# Altium schematic symbol library PW Components.SchLib: 317 symbols (part 2 of 3)
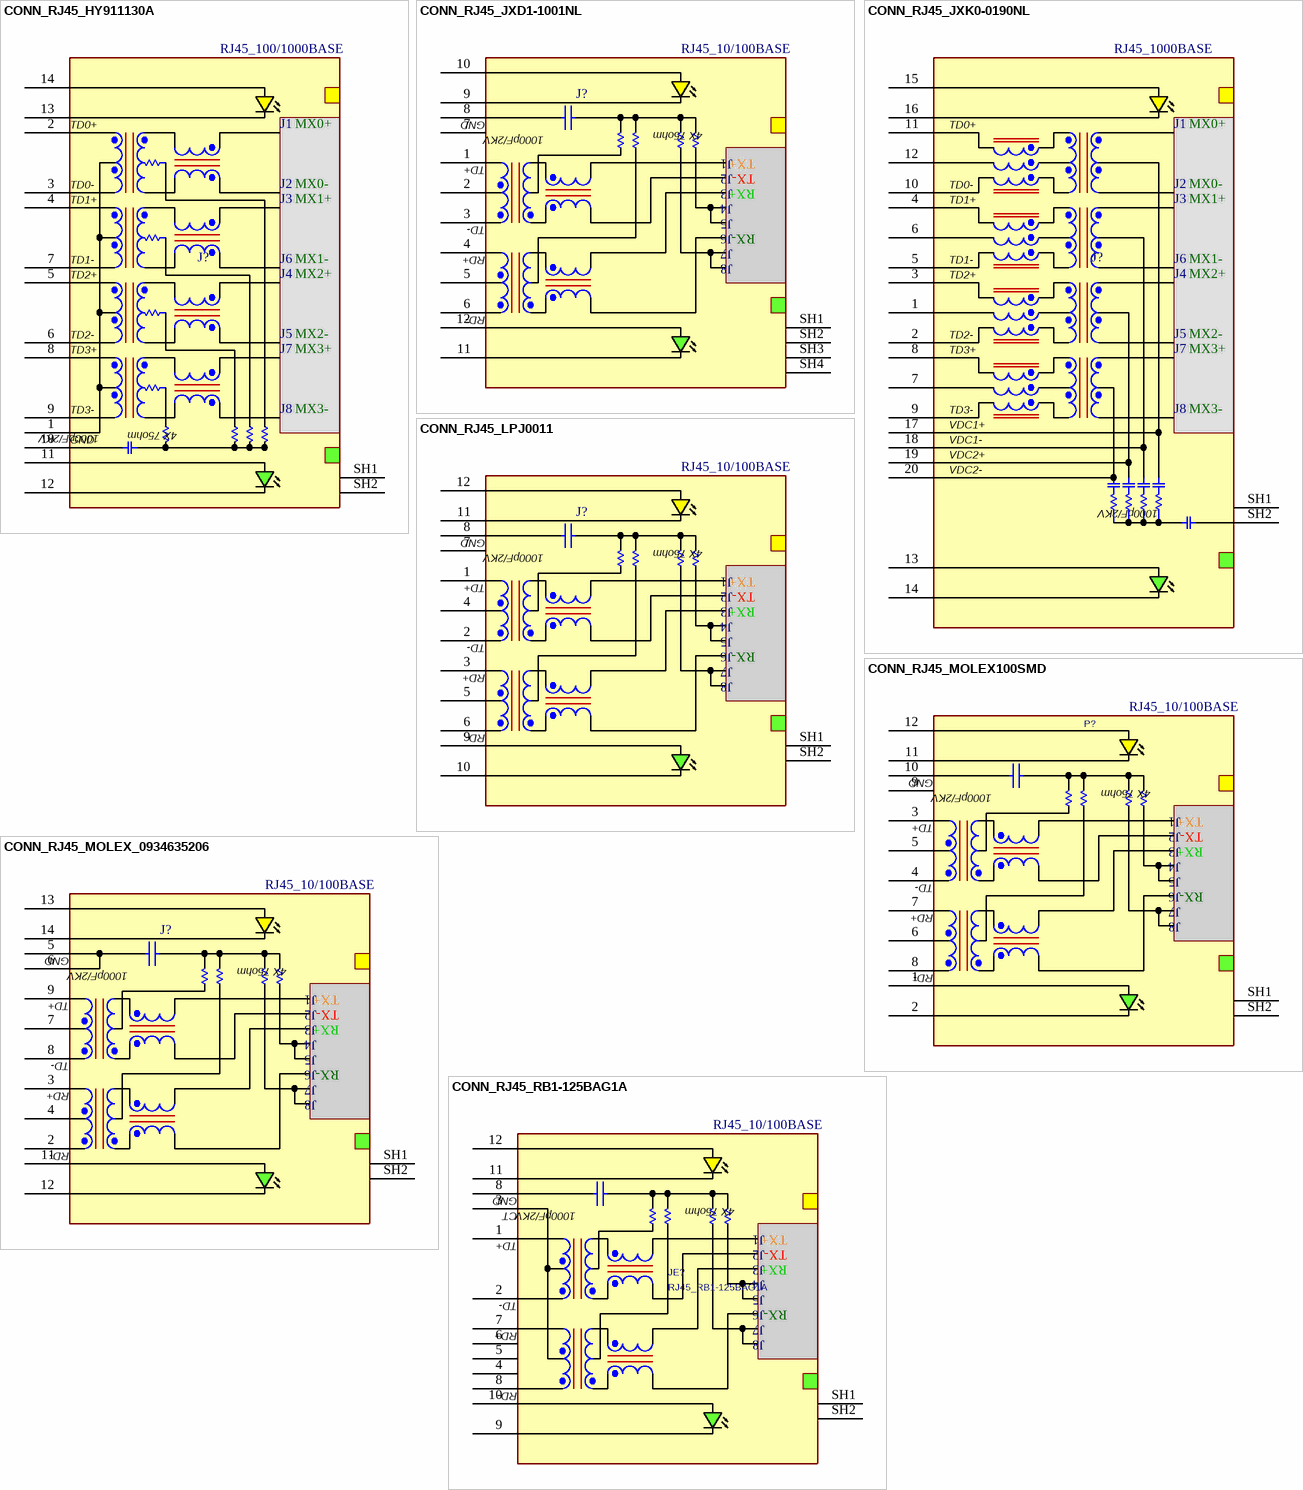
[diagram p15: symbols CONN_RJ45_HY911130A to CONN_RJ45_RB1-125BAG1A]

## CONN_RJ45_JXK0-0190NL
designator J?, comment RJ45_1000BASE
RJ45, 1000BASE, G/Y LED + POE; MANF: Pulse; MANF_P#: JXK0-0190NL; PARAM: 4PAIR POE 75W, -40~85oC; PARAM2: 1000BASE, G/Y LED; VALUE: RJ45_1000BASE
footprint RJ45_20M_JXK0_0190 (RJ45, 1000Base, JXK0-0190NL Pulse)
pins: 1 MDCT3, 2 MD3-, 3 MD3+, 4 MD2+, 5 MD2-, 6 MDCT2, 7 MDCT4, 8 MD4+, 9 MD4-, 10 MD1-, 11 MD1+, 12 MDCT1, 13 GLEDA, 14 GLEDK, 15 YLEDA, 16 YLEDK, 17 VC1+, 18 VC1-, 19 VC2+, 20 VC2-, SH1, SH2
text: TD0+; J1; MX0+; TD0-; J2; MX0-; TD1+; J3; MX1+; TD1-; J6; MX1-; TD2+; J4; MX2+; TD2-; J5; MX2-; TD3+; J7; MX3+; TD3-; J8; MX3-; VDC1+; VDC1-; VDC2+; VDC2-; 1000pF/2KV

## CONN_RJ45_LPJ0011
designator J?, comment RJ45_10/100BASE
RJ45, 10/100BASE, G/Y LED; MANF: LINK-PP; MANF_P#: LPJ0011BBNL; PARAM: 0~70oC; PARAM2: 10/100BASE, G/Y LED; VALUE: RJ45_10/100BASE
footprint RJ45_8M_HR911105A (RJ45, 10/100BASE, HR911105A WITH G/Y LED)
pins: 1 TD+, 2 TD-, 3 RD+, 4 TCT, 5 RCT, 6 RD-, 7 NC, 8 CHSGND, 9 GLED+, 10 GLED-, 11 YLED-, 12 YLED+, SH1, SH2
text: GND; 4X 75ohm; 1000pF/2KV; J1; TX+; J2; TX-; J3; RX+; J4; J5; J6; RX-; J7; J8

## CONN_RJ45_MOLEX100SMD
designator P?, comment RJ45_10/100BASE
RJ45, 10/100BASE, G/Y LED, SMT; DESC: MAGNET AND MODULAR JACK; MANF: MOLEX; MANF_P#: 48074-9001; PARAM2: 10/100BASE, G/Y LED; VALUE: RJ45_10/100BASE
footprint RJ45_8M_100M_SMD (RJ45, 10/100BASE, MOLEX SMD WITH G/Y LED)
pins: 1 GLED+, 2 GLED-, 3 TD+, 4 TD-, 5 TCT, 6 RCT, 7 RD+, 8 RD-, 9 NC, 10 CHSGND, 11 YLED-, 12 YLED+, SH1, SH2
text: GND; 4X 75ohm; 1000pF/2KV; J1; TX+; J2; TX-; J3; RX+; J4; J5; J6; RX-; J7; J8

## CONN_RJ45_MOLEX_0934635206
designator J?, comment RJ45_10/100BASE
RJ45, 10/100BASE, G/Y LED, UpTab; MANF: Molex; MANF_P#: 0934635206; PARAM: -40~85oC; PARAM2: 10/100BASE, G/Y LED; PRICE: 4.2$; VALUE: RJ45_10/100BASE
footprint RJ45_8M_0934635206 (RJ45, 10/100BASE, Up Tab, 0934635206 MOLEX)
pins: 2 RD-, 3 RD+, 4 RCT, 5 CHSGND, 6 GND, 7 TCT, 8 TD-, 9 TD+, 11 GLED+, 12 GLED-, 13 YLED+, 14 YLED-, SH1, SH2
text: 4X 75ohm; 1000pF/2KV; J1; TX+; J2; TX-; J3; RX+; J4; J5; J6; RX-; J7; J8

## CONN_RJ45_RB1-125BAG1A
designator JE?, comment RJ45_RB1-125BAG1A  value RJ45_10/100BASE
RJ45, 10/100BASE, G/Y LED; DIST#: DIGIKEY/1278-1011-ND; DESC: CONN MAGJACK 1PORT 100 BASE-T; MANF: WIZNET; PRICE: 1:$2.55; MANF_P#: RB1-125BAG1A; PARAM2: 10/100BASE, G/Y LED
footprint RJ45_8M_LS (HALO Ethernet FASTJACK with LED STAGGERED, RB1-125BAG1A)
pins: 1 TD+, 2 TD-, 3 CT, 4, 5, 6, 7 RD+, 8 RD-, 8 CHSGND, 9 GLED-, 10 GLED+, 11 YLED-, 12 YLED+, SH1, SH2
text: GND; 4X 75ohm; 1000pF/2KV; J1; TX+; J2; TX-; J3; RX+; J4; J5; J6; RX-; J7; J8

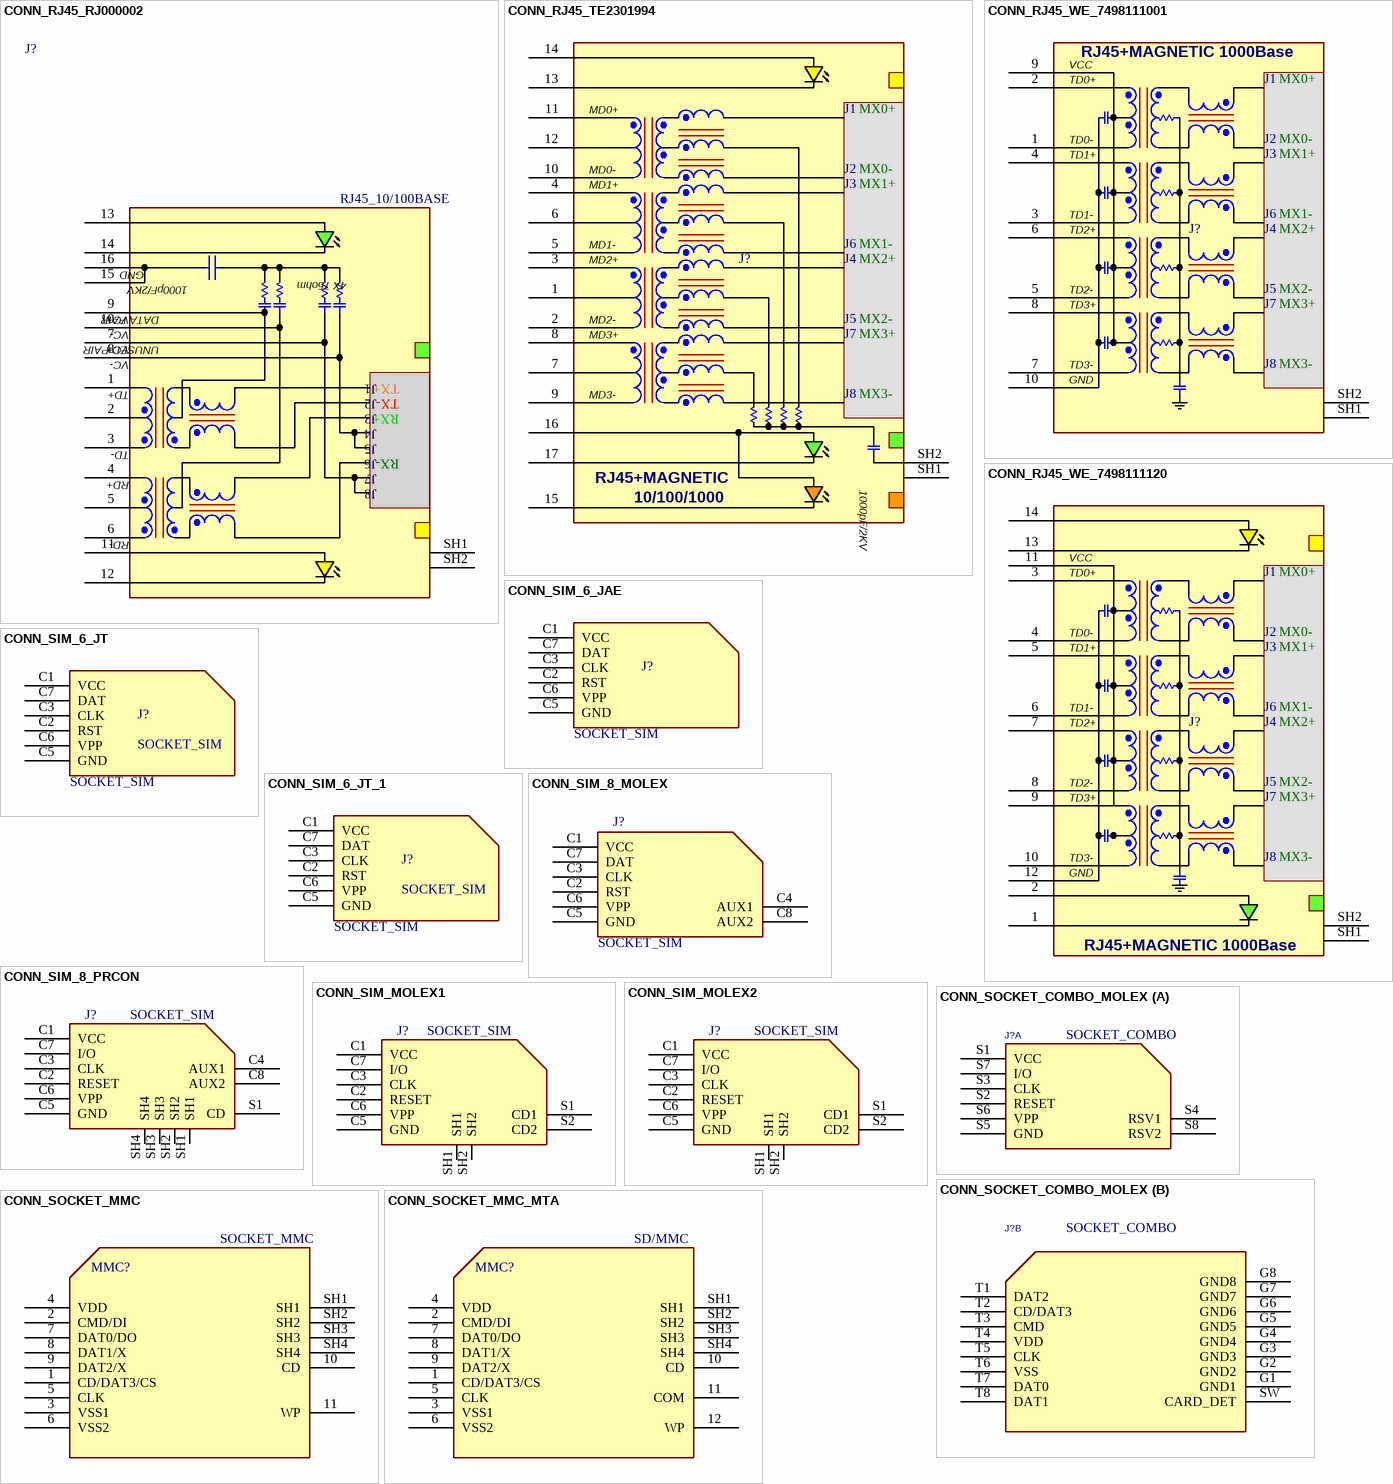
[diagram p6: symbols CONN_RJ45_RJ000002 to CONN_SOCKET_MMC_MTA]

## CONN_RJ45_RJ000002
designator J?, comment RJ45_10/100BASE
RJ45, 10/100BASE, G/Y LED; MANF: LINK-PP, YCL; MANF_P#: RJ000002; PARAM2: 10/100BASE, G/Y LED; VALUE: RJ45_10/100BASE
footprint RJ45_10M_RJ000002 (RJ45, 10/100BASE,)
pins: 1 TD+, 2 TCT, 3 TD-, 4 RD+, 5 RCT, 6 RD-, 7 VCU+, 8 VCU-, 9 VCD+, 10 VCD-, 11 YLED+, 12 YLED-, 13 GLED+, 14 GLED-, 15 P15, 16 CHSGND, SH1, SH2
text: GND; 4X 75ohm; 1000pF/2KV; VC+; DATA PAIR; VC-; UNUSED PAIR; J1; TX+; J2; TX-; J3; RX+; J4; J5; J6; RX-; J7; J8

## CONN_RJ45_TE2301994
designator J?, comment RJ45_10/100/1000  (value not drawn)
RJ45, 10/100/1000, with Magnetic, G/Y LED; MANF: TE; MANF_P#: 6-2301994-1; PARAM: -40~85oC; PARAM2: 10/100/1000, with Magnetic, G/Y LED; PRICE: 9$; VALUE: RJ45_10/100/1000
footprint RJ45_12M_TE2301994 (RJ45, 1000Base, Up Tab, TE 6-2301994-1)
pins: 1 MDCT2, 2 MD2-, 3 MD2+, 4 MD1+, 5 MD1-, 6 MDCT1, 7 MDCT3, 8 MD3+, 9 MD3-, 10 MD0-, 11 MD0+, 12 MDCT0, 13 YLED-, 14 YLED+, 15 OLED-, 16 GLED+, 17 GLED-, SH1, SH2
text: J1; MX0+; J2; MX0-; J3; MX1+; J6; MX1-; J4; MX2+; J5; MX2-; J7; MX3+; J8; MX3-; RJ45+MAGNETIC; 1000pF/2KV; 10/100/1000

## CONN_RJ45_WE_7498111001
designator J?, comment RJ45_1000Base  (value not drawn)
RJ45, 1000Base, with Magnetic; MANF: WE; MANF_P#: 7498111001; PARAM: -40~85oC; PARAM2: 1000Base, with Magnetic; PRICE: 12$; VALUE: RJ45_1000Base
footprint RJ45_10M_WE7498111001 (Footprint not found)
pins: 1 TD0-, 2 TD0+, 3 TD1-, 4 TD1+, 5 TD2-, 6 TD2+, 7 TD3-, 8 TD3+, 9 VCC, 10 CHSGND, SH1, SH2
text: RJ45+MAGNETIC 1000Base; J1; MX0+; J2; MX0-; J3; MX1+; J6; MX1-; J4; MX2+; J5; MX2-; J7; MX3+; J8; MX3-; GND

## CONN_RJ45_WE_7498111120
designator J?, comment RJ45_1000Base  (value not drawn)
RJ45, 1000Base, with Magnetic + LED G/Y; MANF: WE; MANF_P#: 7498111120R; PARAM: 0~70oC; PARAM2: 1000Base, with Magnetic + LED G/Y; PRICE: 13$; VALUE: RJ45_1000Base
footprint RJ45_10M_WE7498111120 (Footprint not found)
pins: 1 GLED-, 2 GLED+, 3 TD0+, 4 TD0-, 5 TD1+, 6 TD1-, 7 TD2+, 8 TD2-, 9 TD3+, 10 TD3-, 11 VCC, 12 CHSGND, 13 YLED-, 14 YLED+, SH1, SH2
text: J1; MX0+; J2; MX0-; J3; MX1+; J6; MX1-; J4; MX2+; J5; MX2-; J7; MX3+; J8; MX3-; GND; RJ45+MAGNETIC 1000Base

## CONN_SIM_6_JAE
designator J?, comment SOCKET_SIM
SOCKET, SIM MINI, Hinged Lid, exist on Iran; MANF_P#: SF7W006S1AE1000; MANF: JAE; PARAM: Hinged Lid; PRICE: 3$; VALUE: SOCKET_SIM
footprint SIM_MINI_6
pins: C1 VCC, C2 RST, C3 CLK, C5 GND, C6 VPP, C7 DAT

## CONN_SIM_6_JT
designator J?, comment SOCKET_SIM
SOCKET, SIM MINI, PUSH-PULL, exist on Iran; MANF: JTCONN; MANF_P#: -; PRICE: 750toman@roboeq; VALUE: SOCKET_SIM
footprint SIM_MINI_6JT (SIM MINI, JTCONN)
pins: C1 VCC, C2 RST, C3 CLK, C5 GND, C6 VPP, C7 DAT

## CONN_SIM_6_JT_1
designator J?, comment SOCKET_SIM
SOCKET, SIM MINI, PUSH-PULL, exist on Iran; MANF: JTCONN; MANF_P#: -; PRICE: 750toman@roboeq; VALUE: SOCKET_SIM
footprint SIM_MINI_6JT (SIM MINI, JTCONN)
pins: C1 VCC, C2 RST, C3 CLK, C5 GND, C6 VPP, C7 DAT

## CONN_SIM_8_MOLEX
designator J?, comment SOCKET_SIM
SOCKET, SIM MINI, with Ejector, exist on Iran; MANF: MOLEX; MANF_P#: 91228-3001; VALUE: SOCKET_SIM
footprint SIM_MINI_8_MOLEX (SIM 8P, MOLEX 91228-3001, 2.54mm Pitch ChipSIM Connector with Ejector, 6 Circuits, without Pegs, Yellow Button)
pins: C1 VCC, C2 RST, C3 CLK, C4 AUX1, C5 GND, C6 VPP, C7 DAT, C8 AUX2

## CONN_SIM_8_PRCON
designator J?, comment SOCKET_SIM
SOCKET, SIM MINI, PUSH-PUSH, exist on Iran; MANF: PROCONN, GCT; MANF_P#: SPPN08-A0-1080, SIM4056; PRICE: 2000t@JAVAN, 2500toman@eca; VALUE: SOCKET_SIM
footprint SIM_MINI_GCT (SIM MINI, GCT SIM4056 pitch: 1.27mm 26.3x19.3mm)
pins: C1 VCC, C2 RESET, C3 CLK, C4 AUX1, C5 GND, C6 VPP, C7 I/O, C8 AUX2, S1 CD, SH1, SH2, SH3, SH4

## CONN_SIM_MOLEX1
designator J?, comment SOCKET_SIM
SOCKET, SIM MINI, w/o Locator; MANF: Molex, ATTEND; MANF_P#: 47553-0001, 115A-ADA0-R02; PRICE: 1=2.94, 10=2.822, 25=2.5868, 50=2.4694, 100=2.3518, 250=2.05784 (USD); VALUE: SOCKET_SIM
footprint SIM_MINI_MOLEX1 (SIM MINI, MOLEX PUSH PUSH pitch: 1.27mm 26.3x19.3mm)
pins: C1 VCC, C2 RESET, C3 CLK, C5 GND, C6 VPP, C7 I/O, S1 CD1, S2 CD2, SH1, SH2

## CONN_SIM_MOLEX2
designator J?, comment SOCKET_SIM
SOCKET, SIM MINI, with Locator; MANF: Molex; MANF_P#: 47553-1001; PRICE: 1=2.94, 10=2.822, 25=2.5868, 50=2.4694, 100=2.3518, 250=2.05784 (USD); VALUE: SOCKET_SIM
footprint SIM_MINI_MOLEX2 (SIM MINI, with Locator, MOLEX 47553-1001)
pins: C1 VCC, C2 RESET, C3 CLK, C5 GND, C6 VPP, C7 I/O, S1 CD1, S2 CD2, SH1, SH2

## CONN_SOCKET_COMBO_MOLEX
designator J?, comment SOCKET_COMBO
SOCKET, MICROSIM+SD, MOLEX 104168-1620; MANF: MOLEX; MANF_P#: 104168-1620; VALUE: SOCKET_COMBO
footprint SIMCOMBO_MOLEX (MOLEX MICROSIM+SD SOCKET 104168-1620)
part A pins: S1 VCC, S2 RESET, S3 CLK, S4 RSV1, S5 GND, S6 VPP, S7 I/O, S8 RSV2
part B pins: G1 GND1, G2 GND2, G3 GND3, G4 GND4, G5 GND5, G6 GND6, G7 GND7, G8 GND8, SW CARD_DET, T1 DAT2, T2 CD/DAT3, T3 CMD, T4 VDD, T5 CLK, T6 VSS, T7 DAT0, T8 DAT1
part B text: micro SD

## CONN_SOCKET_MMC
designator MMC?, comment SOCKET_MMC
MMC/SD Card; VALUE: SOCKET_MMC
footprint MMC
pins: 1 CD/DAT3/CS, 2 CMD/DI, 3 VSS1, 4 VDD, 5 CLK, 6 VSS2, 7 DAT0/DO, 8 DAT1/X, 9 DAT2/X, 10 CD, 11 WP, SH1, SH2, SH3, SH4

## CONN_SOCKET_MMC_MTA
designator MMC?, comment SD/MMC
MMC/SD Card; MANF_P#: SDC-W25PB-09; MANF: Morethanall; VALUE: SD/MMC
footprint MMC_MTA (SD/MMC Morethanall SDC-W25PB-09)
pins: 1 CD/DAT3/CS, 2 CMD/DI, 3 VSS1, 4 VDD, 5 CLK, 6 VSS2, 7 DAT0/DO, 8 DAT1/X, 9 DAT2/X, 10 CD, 11 COM, 12 WP, SH1, SH2, SH3, SH4

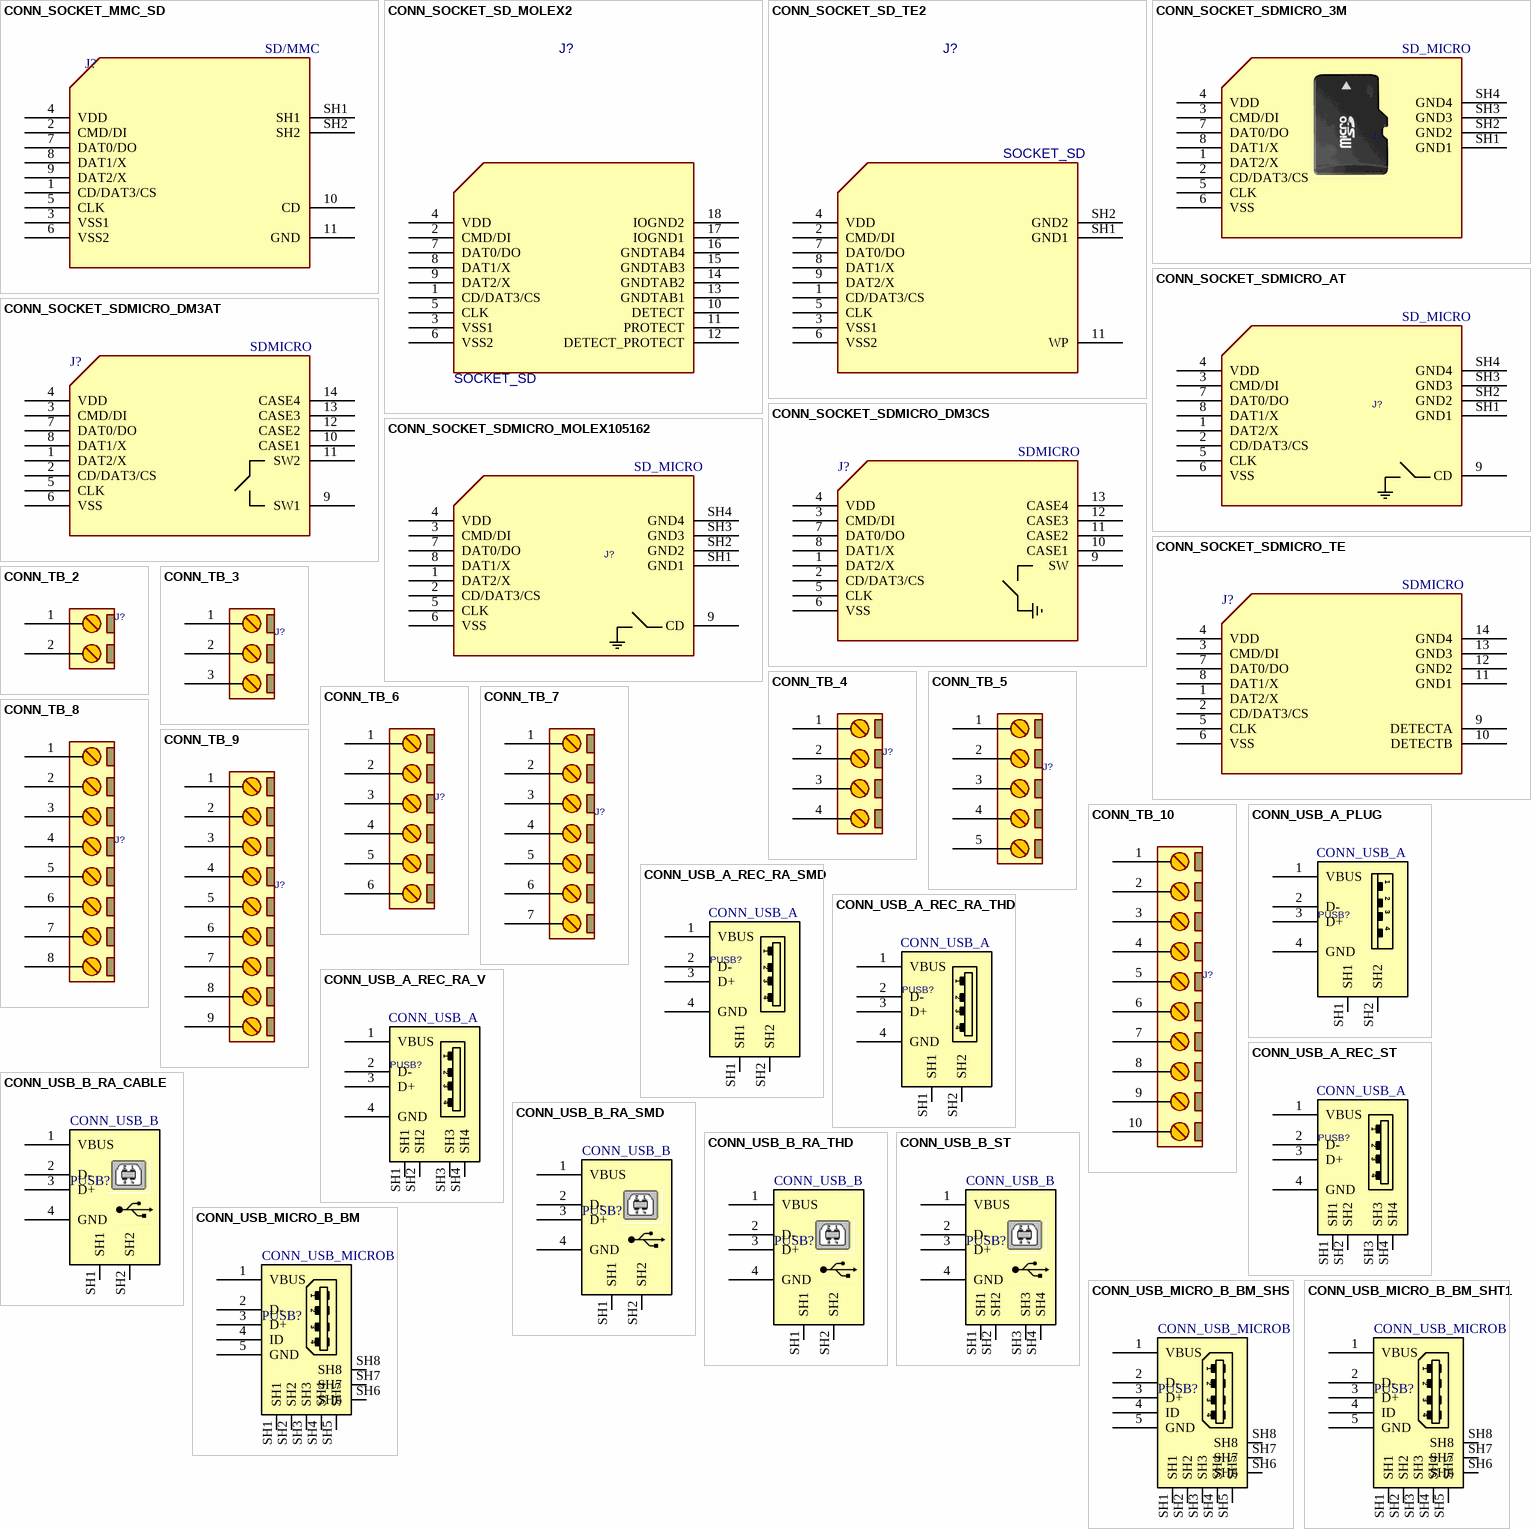
[diagram p7: symbols CONN_SOCKET_MMC_SD to CONN_USB_MICRO_B_BM_SHT1]

## CONN_SOCKET_MMC_SD
designator J?, comment SD/MMC
VALUE: SD/MMC
footprint MMC_SD
pins: 1 CD/DAT3/CS, 2 CMD/DI, 3 VSS1, 4 VDD, 5 CLK, 6 VSS2, 7 DAT0/DO, 8 DAT1/X, 9 DAT2/X, 10 CD, 11 GND, SH1, SH2

## CONN_SOCKET_SD_MOLEX2
designator J?, comment SOCKET_SD
SD MEMORY CARD CONNECTOR RT ANGLE THRU HOLE PUSH-PUSH; MANF: MOLEX; DESC: DESCRIPTION; MANF_P#: 67840-8001; ASSEMBLY: ASSEMBLY; PARAM: PARAM; PRICE: 4.3$; VALUE: SOCKET_SD
footprint SD_MOLEX2 (MOLEX_SD_67840)
pins: 1 CD/DAT3/CS, 2 CMD/DI, 3 VSS1, 4 VDD, 5 CLK, 6 VSS2, 7 DAT0/DO, 8 DAT1/X, 9 DAT2/X, 10 DETECT, 11 PROTECT, 12 DETECT_PROTECT, 13 GNDTAB1, 14 GNDTAB2, 15 GNDTAB3, 16 GNDTAB4, 17 IOGND1, 18 IOGND2

## CONN_SOCKET_SD_TE2
designator J?, comment SOCKET_SD
SD MEMORY CARD CONNECTOR RT ANGLE THRU HOLE PUSH-PUSH; MANF: TE; DESC: DESCRIPTION; MANF_P#: 1734472; ASSEMBLY: ASSEMBLY; PARAM: PARAM; PRICE: -; VALUE: SOCKET_SD
footprint SD_TE2 (TE 1734472)
pins: 1 CD/DAT3/CS, 2 CMD/DI, 3 VSS1, 4 VDD, 5 CLK, 6 VSS2, 7 DAT0/DO, 8 DAT1/X, 9 DAT2/X, 11 WP, SH1 GND1, SH2 GND2

## CONN_SOCKET_SDMICRO_3M
designator J?, comment SD_MICRO
SD MICRO, 3M 29-08-05WB-MG; MANF: 3M/MOLEX; MANF_P#: 29-08-05WB-MG; VALUE: SD_MICRO
footprint SDMICRO_3MOLEX (MicroSD Socket (Molex 500873-080X) (3M 2908-05WB-MG))
pins: 1 DAT2/X, 2 CD/DAT3/CS, 3 CMD/DI, 4 VDD, 5 CLK, 6 VSS, 7 DAT0/DO, 8 DAT1/X, SH1 GND1, SH2 GND2, SH3 GND3, SH4 GND4

## CONN_SOCKET_SDMICRO_AT
designator J?, comment SD_MICRO
SD MICRO exist in Iran, Attend 112J-TDAR-R01; PARAM: push-push; MANF: Attend; MANF_P#: 112J-TDAR-R01; VALUE: SD_MICRO
footprint SDMICRO_AT (SDMICRO exist on Iran, Attend 112J-TDAR-R01)
pins: 1 DAT2/X, 2 CD/DAT3/CS, 3 CMD/DI, 4 VDD, 5 CLK, 6 VSS, 7 DAT0/DO, 8 DAT1/X, 9 CD, SH1 GND1, SH2 GND2, SH3 GND3, SH4 GND4

## CONN_SOCKET_SDMICRO_DM3AT
designator J?, comment SDMICRO
CONN MICRO SD R/A PUSH-PUSH SMD; MANF: Hirose; MANF_P#: DM3AT-SF-PEJM5; PRICE: 2.6$; VALUE: SDMICRO
footprint SDMICRO_DM3AT
pins: 1 DAT2/X, 2 CD/DAT3/CS, 3 CMD/DI, 4 VDD, 5 CLK, 6 VSS, 7 DAT0/DO, 8 DAT1/X, 9 SW1, 10 CASE1, 11 SW2, 12 CASE2, 13 CASE3, 14 CASE4

## CONN_SOCKET_SDMICRO_DM3CS
designator J?, comment SDMICRO
CONN MICRO SD R/A HING TYPE SMD; MANF: Hirose Electric Co Ltd; MANF_P#: DM3C-SF; PRICE: 1=2.36, 10=1.96, 25=1.8152, 50=1.6368, 100=1.452, 250=1.2738, 500=1.1616 (USD); VALUE: SDMICRO
footprint SDMICRO_DM3CS
pins: 1 DAT2/X, 2 CD/DAT3/CS, 3 CMD/DI, 4 VDD, 5 CLK, 6 VSS, 7 DAT0/DO, 8 DAT1/X, 9 SW, 10 CASE1, 11 CASE2, 12 CASE3, 13 CASE4

## CONN_SOCKET_SDMICRO_MOLEX105162
designator J?, comment SD_MICRO
SD MICRO; MANF: MOLEX; MANF_P#: 1051620001; PARAM: Push In, Pull Out; PRICE: 1$; VALUE: SD_MICRO
footprint SDMICRO_MOLEX105162 (MicroSD Socket Molex 105162)
pins: 1 DAT2/X, 2 CD/DAT3/CS, 3 CMD/DI, 4 VDD, 5 CLK, 6 VSS, 7 DAT0/DO, 8 DAT1/X, 9 CD, SH1 GND1, SH2 GND2, SH3 GND3, SH4 GND4

## CONN_SOCKET_SDMICRO_TE
designator J?, comment SDMICRO
MANF_P#: 1871602-2; MANF: TE; VALUE: SDMICRO
footprint SDMICRO_TE (SD CARD SOCKET, Micro, Push/Push, Top Mount, With Locating Post, TE 1871602-2)
pins: 1 DAT2/X, 2 CD/DAT3/CS, 3 CMD/DI, 4 VDD, 5 CLK, 6 VSS, 7 DAT0/DO, 8 DAT1/X, 9 DETECTA, 10 DETECTB, 11 GND1, 12 GND2, 13 GND3, 14 GND4

## CONN_TB_2
designator J?, comment CONN_TB2  (value not drawn)
CONN, TERMINAL BLOCK, 5.08mm pitch; VALUE: CONN_TB2
footprint TBG_2 (Terminal Block Green)
footprint TBB_2 (Terminal Block Blue)
pins: 1, 2

## CONN_TB_3
designator J?, comment CONN_TB3  (value not drawn)
CONN, TERMINAL BLOCK, 5.08mm pitch; VALUE: CONN_TB3
footprint TBG_3 (Terminal Block Green)
footprint TBB_3 (Terminal Block Blue)
pins: 1, 2, 3

## CONN_TB_4
designator J?, comment CONN_TB4  (value not drawn)
CONN, TERMINAL BLOCK, 5.08mm pitch; VALUE: CONN_TB4
footprint TBG_4 (Terminal Block Green)
footprint TBB_4 (Terminal Block Blue)
pins: 1, 2, 3, 4

## CONN_TB_5
designator J?, comment CONN_TB5  (value not drawn)
CONN, TERMINAL BLOCK, 5.08mm pitch; VALUE: CONN_TB5
footprint TBG_5 (Terminal Block Green)
footprint TBB_5 (Terminal Block Blue)
pins: 1, 2, 3, 4, 5

## CONN_TB_6
designator J?, comment CONN_TB6  (value not drawn)
CONN, TERMINAL BLOCK, 5.08mm pitch; VALUE: CONN_TB6
footprint TBG_6 (Terminal Block Green)
footprint TBB_6 (Terminal Block Blue)
pins: 1, 2, 3, 4, 5, 6

## CONN_TB_7
designator J?, comment CONN_TB7  (value not drawn)
CONN, TERMINAL BLOCK, 5.08mm pitch; VALUE: CONN_TB7
footprint TBG_7 (Terminal Block Green)
footprint TBB_7 (Terminal Block Blue)
pins: 1, 2, 3, 4, 5, 6, 7

## CONN_TB_8
designator J?, comment CONN_TB8  (value not drawn)
CONN, TERMINAL BLOCK, 5.08mm pitch; VALUE: CONN_TB8
footprint TBG_8 (Terminal Block Green)
footprint TBB_8 (Terminal Block Blue)
pins: 1, 2, 3, 4, 5, 6, 7, 8

## CONN_TB_9
designator J?, comment CONN_TB9  (value not drawn)
CONN, TERMINAL BLOCK, 5.08mm pitch; VALUE: CONN_TB9
footprint TBG_9 (Terminal Block Green)
footprint TBB_9 (Terminal Block Blue)
pins: 1, 2, 3, 4, 5, 6, 7, 8, 9

## CONN_TB_10
designator J?, comment CONN_TB10  (value not drawn)
CONN, TERMINAL BLOCK, 5.08mm pitch; VALUE: CONN_TB10
footprint TBG_10 (Terminal Block Green)
footprint TBB_10 (Terminal Block Blue)
pins: 1, 2, 3, 4, 5, 6, 7, 8, 9, 10

## CONN_USB_A_PLUG
designator PUSB?, comment CONN_USB_A
CONN, USB, A, PLUG, THD; VALUE: CONN_USB_A
footprint USB_A_PLG_RA (CONN, USB, Type A, PLUG, Right Angle, SMD, THD)
pins: 1 VBUS, 2 D-, 3 D+, 4 GND, SH1, SH2

## CONN_USB_A_REC_RA_SMD
designator PUSB?, comment CONN_USB_A
CONN, USB, A, RECEPTACLE, R/A, SMD; VALUE: CONN_USB_A
footprint USB_A_REC_RA_SMD (CONN, USB A, Receptacle, RIGHT ANGLE, SMD)
pins: 1 VBUS, 2 D-, 3 D+, 4 GND, SH1, SH2

## CONN_USB_A_REC_RA_THD
designator PUSB?, comment CONN_USB_A
CONN, USB, A, RECEPTACLE, R/A, THD; VALUE: CONN_USB_A
footprint USB_A_REC_RA_THD (CONN, USB A, Receptacle, RIGHT ANGLE, THD)
pins: 1 VBUS, 2 D-, 3 D+, 4 GND, SH1, SH2

## CONN_USB_A_REC_RA_V
designator PUSB?, comment CONN_USB_A
CONN, USB, A, RECEPTACLE, R/A, THD, VERTICAL; VALUE: CONN_USB_A
footprint USB_A_REC_RA_V (CONN, USB A, Right Angle, VERTICAL, THD)
pins: 1 VBUS, 2 D-, 3 D+, 4 GND, SH1, SH2, SH3, SH4

## CONN_USB_A_REC_ST
designator PUSB?, comment CONN_USB_A
CONN, USB, A, RECEPTACLE, STRAIGHT, THD; VALUE: CONN_USB_A
footprint USB_A_REC_ST (CONN, USB A, Receptacle, STRAIGHT, THD)
pins: 1 VBUS, 2 D-, 3 D+, 4 GND, SH1, SH2, SH3, SH4

## CONN_USB_B_RA_CABLE
designator PUSB?, comment CONN_USB_B
CONN, USB, B, R/A, THD, CABLE; MANF_P#: -; MANF: -; VALUE: CONN_USB_B
footprint USB_B_RA_CABLE (CONN, USB B, Receptacle, RIGHT ANGLE, THD)
pins: 1 VBUS (power), 2 D-, 3 D+, 4 GND (power), SH1, SH2

## CONN_USB_B_RA_SMD
designator PUSB?, comment CONN_USB_B
CONN, USB, B, R/A, SMD; MANF_P#: KUSBEX-SMT-BS1N-BTR; MANF: Kycon; MANF_P#2: KUSBX-SMTBS1NBTR, KUSBX-SMTBS1NWTR; VALUE: CONN_USB_B
footprint USB_B_RA_SMD (CONN, USB B, Receptacle, RIGHT ANGLE, SMD)
pins: 1 VBUS (power), 2 D-, 3 D+, 4 GND (power), SH1, SH2

## CONN_USB_B_RA_THD
designator PUSB?, comment CONN_USB_B
CONN, USB, B, R/A, THD; MANF_P#: 292304-1; MANF: TE Connectivity; VALUE: CONN_USB_B
footprint USB_B_RA_THD (CONN, USB B, Receptacle, RIGHT ANGLE, THD)
pins: 1 VBUS (power), 2 D-, 3 D+, 4 GND (power), SH1, SH2

## CONN_USB_B_ST
designator PUSB?, comment CONN_USB_B
CONN, USB, B, STRAIGHT, THD; MANF_P#: -; MANF: -; VALUE: CONN_USB_B
footprint USB_B_ST (CONN, USB B, Receptacle, STRAIGHT, THD)
pins: 1 VBUS (power), 2 D-, 3 D+, 4 GND (power), SH1, SH2, SH3, SH4

## CONN_USB_MICRO_B_BM
designator PUSB?, comment CONN_USB_MICROB
CONN, USB, MICRO B, R/A, SMD, BOTTOM MOUNT; MANF_P#: 47590-0001; MANF: Molex; MANF_P#2: 47346-0001 Molex, ZX62-AB-5PA-11 HIROSE, 1981584-1 TE; PARAM2: 30VAC; PARAM: 1.8A, -20~85oC; PRICE: 0.75$; VALUE: CONN_USB_MICROB
footprint USB_MICRO_B_BM (CONN, USB Micro AB - Standard (Bottom mount), Shell THD, G610)
pins: 1 VBUS (power), 2 D-, 3 D+, 4 ID (power), 5 GND (power), SH1, SH2, SH3, SH4, SH5, SH6, SH7, SH8

## CONN_USB_MICRO_B_BM_SHS
designator PUSB?, comment CONN_USB_MICROB
CONN, USB, MICRO B, R/A, SMD, BOTTOM MOUNT, SHS; MANF_P#: ZX62-AB-5PA-11; MANF: HIROSE; MANF_P#2: 47346-0001 Molex, ZX62-AB-5PA-11 HIROSE, 1981584-1 TE; VALUE: CONN_USB_MICROB
footprint USB_MICRO_B_BM_SHS (CONN, USB Micro AB - Standard (Bottom mount), Shell SMT)
pins: 1 VBUS (power), 2 D-, 3 D+, 4 ID (power), 5 GND (power), SH1, SH2, SH3, SH4, SH5, SH6, SH7, SH8

## CONN_USB_MICRO_B_BM_SHT1
designator PUSB?, comment CONN_USB_MICROB
CONN, USB, MICRO B, R/A, SMD, BOTTOM MOUNT, SHT; MANF_P#: 47590-0001; MANF: MOLEX; VALUE: CONN_USB_MICROB
footprint USB_MICRO_B_BM_SHT1 (CONN, USB Micro AB - Standard (Bottom mount), Shell through hole)
pins: 1 VBUS (power), 2 D-, 3 D+, 4 ID (power), 5 GND (power), SH1, SH2, SH3, SH4, SH5, SH6, SH7, SH8

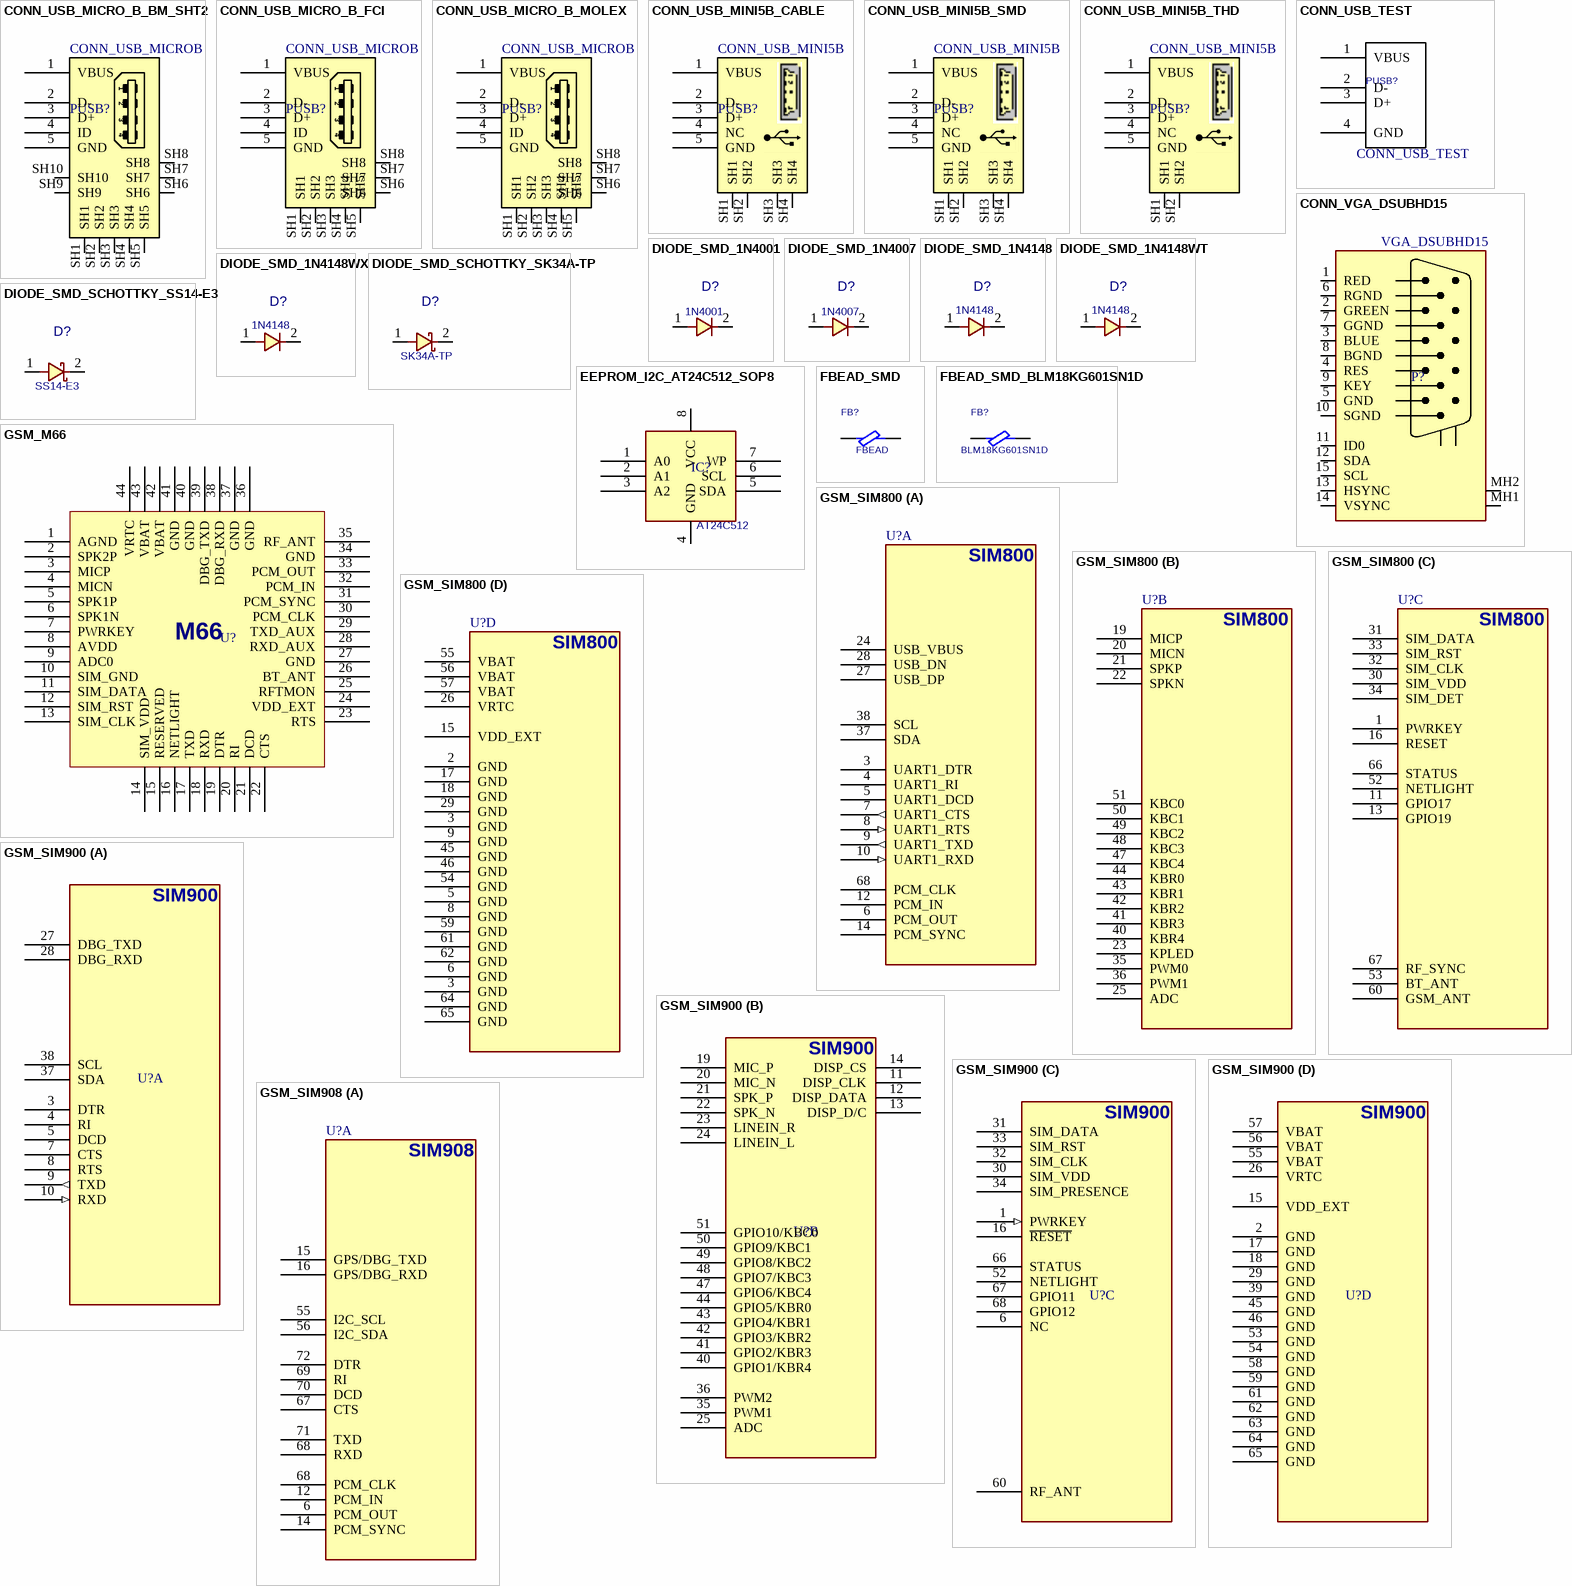
[diagram p8: symbols CONN_USB_MICRO_B_BM_SHT2 to GSM_SIM908]

## CONN_USB_MICRO_B_BM_SHT2
designator PUSB?, comment CONN_USB_MICROB
CONN, USB, MICRO B, R/A, SMD, BOTTOM MOUNT, SHT; MANF_P#: 47590-0001; MANF: MOLEX; VALUE: CONN_USB_MICROB
footprint USB_MICRO_B_BM_SHT2 (CONN, USB Micro AB - Standard (Bottom mount), Shell SMT)
pins: 1 VBUS (power), 2 D-, 3 D+, 4 ID (power), 5 GND (power), SH1, SH2, SH3, SH4, SH5, SH6, SH7, SH8, SH9, SH10

## CONN_USB_MICRO_B_FCI
designator PUSB?, comment CONN_USB_MICROB
CONN, USB, MICRO B, R/A, SMD, BOTTOM MOUNT; MANF_P#: 10103593-0001LF; MANF: FCI; VALUE: CONN_USB_MICROB
footprint USB_MICRO_B_FCI (CONN, USB Micro AB)
pins: 1 VBUS (power), 2 D-, 3 D+, 4 ID (power), 5 GND (power), SH1, SH2, SH3, SH4, SH5, SH6, SH7, SH8

## CONN_USB_MICRO_B_MOLEX
designator PUSB?, comment CONN_USB_MICROB
CONN, USB, MICRO B, R/A, SMD, BOTTOM MOUNT; MANF_P#: 47491-0001; MANF: MOLEX; VALUE: CONN_USB_MICROB
footprint USB_MICRO_B_MOLEX (CONN, USB Micro AB)
pins: 1 VBUS (power), 2 D-, 3 D+, 4 ID (power), 5 GND (power), SH1, SH2, SH3, SH4, SH5, SH6, SH7, SH8

## CONN_USB_MINI5B_CABLE
designator PUSB?, comment CONN_USB_MINI5B
CONN, USB, MINI 5 B, R/A, SMD; MANF_P#: UX60-MB-5ST; MANF: Hirose; MANF_P#2: 67503-1020 MOLEX; VALUE: CONN_USB_MINI5B
footprint USB_MINI_B5_CABLE (CONN, USB MINI B, 5PIN, RIGHT ANGLE, SMD)
pins: 1 VBUS (power), 2 D-, 3 D+, 4 NC (power), 5 GND (power), SH1, SH2, SH3, SH4

## CONN_USB_MINI5B_SMD
designator PUSB?, comment CONN_USB_MINI5B
CONN, USB, MINI 5 B, R/A, SMD; MANF_P#: UX60-MB-5ST; MANF: Hirose; MANF_P#2: 67503-1020 MOLEX; VALUE: CONN_USB_MINI5B
footprint USB_MINI_B5_SMD (CONN, USB MINI B, 5PIN, RIGHT ANGLE, SMD)
pins: 1 VBUS (power), 2 D-, 3 D+, 4 NC (power), 5 GND (power), SH1, SH2, SH3, SH4

## CONN_USB_MINI5B_THD
designator PUSB?, comment CONN_USB_MINI5B
CONN, USB, MINI 5 B, R/A, THD; MANF_P#: -; MANF: -; VALUE: CONN_USB_MINI5B
footprint USB_MINI_B5_THD (CONN, USB MINI B, 5PIN, RIGHT ANGLE, THD)
pins: 1 VBUS (power), 2 D-, 3 D+, 4 NC (power), 5 GND (power), SH1, SH2

## CONN_USB_TEST
designator PUSB?
CONN, USB, TEST; VALUE: CONN_USB_TEST
footprint USBTEST (CONN, USB A Receptacle RIGHT ANGLE)
pins: 1 VBUS, 2 D-, 3 D+, 4 GND

## CONN_VGA_DSUBHD15
designator P?, comment VGA_DSUBHD15
CONN, VGA, DSUB, HD, 15PIN, R/A, FEMALE, THD; MANF_P#: -; MANF: -; VALUE: VGA_DSUBHD15
footprint DSUBHD_15RF (D'SUB MINIATURE HIGH DENSITY 15p, RightAngle, Female, VGA)
pins: 1 RED, 2 GREEN, 3 BLUE, 4 RES, 5 GND, 6 RGND, 7 GGND, 8 BGND, 9 KEY, 10 SGND, 11 ID0, 12 SDA, 13 HSYNC, 14 VSYNC, 15 SCL, MH1, MH2

## DIODE_SMD_1N4001
designator D?, comment 1N4001
DIODE, GENERAL PURPOSE, 50V/1A; DESC: DESCRIPTION; PARAM: 50V VRRM; PARAM2: 1A; MANF: MANF; ASSEMBLY: ASSEMBLY; PRICE: PRICE; MANF_P#: 1N4001; VALUE: 1N4001
footprint D_SMA (SMA Molded Diode, 2-Leads, Body 4.3x2.7mm)
pins: 1, 2

## DIODE_SMD_1N4007
designator D?, comment 1N4007
DIODE, GENERAL PURPOSE, 1000V/1A; MANF: Kingtronics; DESC: DESCRIPTION; PARAM: 1000V VRRM; PARAM2: 1A; MANF_P#: M7; ASSEMBLY: ASSEMBLY; PRICE: PRICE; VALUE: 1N4007
footprint D_SMA (SMA Molded Diode, 2-Leads, Body 4.3x2.7mm)
pins: 1, 2

## DIODE_SMD_1N4148
designator D?, comment 1N4148
DIODE, FAST SWTICHING, 0.3A, 0.5W; DESC: DESCRIPTION; PARAM: 75V; PARAM2: 300mA, 0.5W; MANF: MANF; ASSEMBLY: ASSEMBLY; PRICE: PRICE; MANF_P#: 1N4148; VALUE: 1N4148
footprint D_SOD80 (SOD-80 MINI-MELF 3.6X1.6mm, LL-34, LL4148)
pins: 1, 2

## DIODE_SMD_1N4148WT
designator D?, comment 1N4148
DIODE, FAST SWTICHING, 0.2A; MANF: Fairchild; DESC: DESCRIPTION; PARAM: 75V; PARAM2: 200mA; MANF_P#: 1N4148WT; ASSEMBLY: ASSEMBLY; PRICE: PRICE; VALUE: 1N4148
footprint D_SOD523 (SOD523 SC-79 Molded Diode, 2-Leads, 1.2x0.8mm)
pins: 1, 2

## DIODE_SMD_1N4148WX
designator D?, comment 1N4148
DIODE, FAST SWTICHING, 0.3A, 0.5W; MANF: Micro Commercial Co; DESC: DESCRIPTION; PARAM: 75V; PARAM2: 300mA, 0.5W; MANF_P#: 1N4148WX-TP; ASSEMBLY: ASSEMBLY; PRICE: PRICE; VALUE: 1N4148
footprint D_SOD523 (SOD523 SC-79 Molded Diode, 2-Leads, 1.2x0.8mm)
pins: 1, 2

## DIODE_SMD_SCHOTTKY_SK34A-TP
designator D?, comment SK34A-TP
DIODE, SCHOTTKY, 40V, 3A; MANF: Vishay; DESC: DESCRIPTION; PARAM2: 1A; MANF_P#: SS14-E3; ASSEMBLY: ASSEMBLY; PRICE: PRICE; PARAM: 40V; VALUE: SK34A-TP
footprint D_SMB (SMB Molded Diode, 2-Leads, Body 4.3x3.5mm)
footprint D_SMA (SMA Molded Diode, 2-Leads, Body 4.3x2.7mm, SOD-128)
footprint D_SMC (SMC, Molded Diode, 7.0x6.0mm)
pins: 1, 2

## DIODE_SMD_SCHOTTKY_SS14-E3
designator D?, comment SS14-E3
DIODE, SCHOTTKY, 40V, 1A; MANF: Vishay; DESC: DESCRIPTION; ASSEMBLY: ASSEMBLY; PRICE: PRICE; PARAM2: 1A; PARAM: 40V; MANF_P#: SS14-E3; VALUE: SS14-E3
footprint D_SMB (SMB Molded Diode, 2-Leads, Body 4.3x3.5mm)
footprint D_SMA (SMA Molded Diode, 2-Leads, Body 4.3x2.7mm, SOD-128)
footprint D_SMC (SMC, Molded Diode, 7.0x6.0mm)
pins: 1, 2

## EEPROM_I2C_AT24C512_SOP8
designator IC?, comment AT24C512
EEPROM, I2C, 64KB; Value: AT24C512
footprint SO_8
pins: 1 A0, 2 A1, 3 A2, 4 GND, 5 SDA, 6 SCL, 7 WP, 8 VCC

## FBEAD_SMD
designator FB?, comment FBEAD
FERRITE_Bead, SMD; MANF: MURATA; PARAM: 120@100MHz; PARAM2: 1A; MANF_P#: BLM15AG121SN1D; VALUE: FBEAD
footprint L0603 (INDUCTOR, FERRITE BEAD, 0603, 1.6X0.8mm)
footprint L0805 (INDUCTOR, FERRITE BEAD, 0805, 2.0X1.3mm)
footprint L1206 (INDUCTOR, FERRITE BEAD, 1206, 3.2X1.6mm)
pins: 1, 2

## FBEAD_SMD_BLM18KG601SN1D
designator FB?, comment BLM18KG601SN1D
FERRITE_Bead, 0603, 1.3A, 150mOhm, 600@100MHz; MANF: MURATA; MANF_P#: BLM18PG121SN1D; PARAM: 600@100MHz; PARAM2: 1.3A, 150mOhm; VALUE: BLM18KG601SN1D
footprint L0603 (INDUCTOR, FERRITE BEAD, 0603, 1.6X0.8mm)
pins: 1, 2

## GSM_M66
designator U?, comment SIM300  (value not drawn)
GSM, 850/900/1800/1900, GPRS, UART, 3.3~4.6V; MANF: SIMCom; PARAM2: 3.4~4.5VCC, 1.8/3VSIM; MANF_P#: SIM300; VALUE: SIM300
footprint GSM_M66
pins: 1 AGND, 2 SPK2P, 3 MICP, 4 MICN, 5 SPK1P, 6 SPK1N, 7 PWRKEY, 8 AVDD, 9 ADC0, 10 SIM_GND, 11 SIM_DATA, 12 SIM_RST, 13 SIM_CLK, 14 SIM_VDD, 15 RESERVED, 16 NETLIGHT, 17 TXD, 18 RXD, 19 DTR, 20 RI, 21 DCD, 22 CTS, 23 RTS, 24 VDD_EXT, 25 RFTMON, 26 BT_ANT, 27 GND, 28 RXD_AUX, 29 TXD_AUX, 30 PCM_CLK, 31 PCM_SYNC, 32 PCM_IN, 33 PCM_OUT, 34 GND, 35 RF_ANT, 36 GND, 37 GND, 38 DBG_RXD, 39 DBG_TXD, 40 GND, 41 GND, 42 VBAT, 43 VBAT, 44 VRTC
text: M66

## GSM_SIM800
designator U?, comment SIM800  (value not drawn)
GSM, 850/900/1800/1900, GPRS, USSD, UART/USB, 3.4~4.4V; MANF: SIMCom; PARAM2: 3.4~4.4VCC, 1.8/3VSIM; MANF_P#: SIM800; PARAM: 850/900/1800/1900, GPRS, USSD, UART/USB; VALUE: SIM800
footprint GSM_SIM800
part A pins: 3 UART1_DTR, 4 UART1_RI, 5 UART1_DCD, 6 PCM_OUT, 7 UART1_CTS (out), 8 UART1_RTS (in), 9 UART1_TXD (out), 10 UART1_RXD (in), 12 PCM_IN, 14 PCM_SYNC, 24 USB_VBUS, 27 USB_DP, 28 USB_DN, 37 SDA, 38 SCL, 68 PCM_CLK
part B pins: 19 MICP, 20 MICN, 21 SPKP, 22 SPKN, 23 KPLED, 25 ADC, 35 PWM0, 36 PWM1, 40 KBR4, 41 KBR3, 42 KBR2, 43 KBR1, 44 KBR0, 47 KBC4, 48 KBC3, 49 KBC2, 50 KBC1, 51 KBC0
part C pins: 1 PWRKEY, 11 GPIO17, 13 GPIO19, 16 RESET, 30 SIM_VDD, 31 SIM_DATA, 32 SIM_CLK, 33 SIM_RST, 34 SIM_DET, 52 NETLIGHT, 53 BT_ANT, 60 GSM_ANT, 66 STATUS, 67 RF_SYNC
part D pins: 2 GND, 3 GND, 3 GND, 5 GND, 6 GND, 8 GND, 9 GND, 15 VDD_EXT, 17 GND, 18 GND, 26 VRTC, 29 GND, 45 GND, 46 GND, 54 GND, 55 VBAT, 56 VBAT, 57 VBAT, 59 GND, 61 GND, 62 GND, 64 GND, 65 GND

## GSM_SIM900
designator U?, comment SIM900  (value not drawn)
GSM, 850/900/1800/1900, GPRS, USSD, UART, 3.2~4.8V; MANF: SIMCom; PARAM2: 3.2~4.8VCC, 1.8/3VSIM; MANF_P#: SIM900; PARAM: 850/900/1800/1900, GPRS, USSD, UART; VALUE: SIM900
footprint GSM_SIM900 (SIM900_SIM900A)
part A pins: 3 DTR (power), 4 RI (power), 5 DCD (power), 7 CTS (power), 8 RTS (power), 9 TXD (out), 10 RXD (in), 27 DBG_TXD (power), 28 DBG_RXD (power), 37 SDA (power), 38 SCL (power)
part B pins: 11 DISP_CLK (power), 12 DISP_DATA (power), 13 DISP_D/C (power), 14 DISP_CS (power), 19 MIC_P (power), 20 MIC_N (power), 21 SPK_P (power), 22 SPK_N (power), 23 LINEIN_R (power), 24 LINEIN_L (power), 25 ADC (power), 35 PWM1 (power), 36 PWM2 (power), 40 GPIO1/KBR4 (power), 41 GPIO2/KBR3 (power), 42 GPIO3/KBR2 (power), 43 GPIO4/KBR1 (power), 44 GPIO5/KBR0 (power), 47 GPIO6/KBC4 (power), 48 GPIO7/KBC3 (power), 49 GPIO8/KBC2 (power), 50 GPIO9/KBC1 (power), 51 GPIO10/KBC0 (power)
part C pins: 1 PWRKEY (in), 6 NC, 16 ~{RESET} (power), 30 SIM_VDD (power), 31 SIM_DATA (power), 32 SIM_CLK (power), 33 SIM_RST (power), 34 SIM_PRESENCE (power), 52 NETLIGHT (power), 60 RF_ANT (power), 66 STATUS (power), 67 GPIO11 (power), 68 GPIO12 (power)
part D pins: 2 GND (power), 15 VDD_EXT (power), 17 GND (power), 18 GND (power), 26 VRTC (power), 29 GND (power), 39 GND (power), 45 GND (power), 46 GND (power), 53 GND (power), 54 GND (power), 55 VBAT (power), 56 VBAT (power), 57 VBAT (power), 58 GND (power), 59 GND (power), 61 GND (power), 62 GND (power), 63 GND (power), 64 GND (power), 65 GND (power)

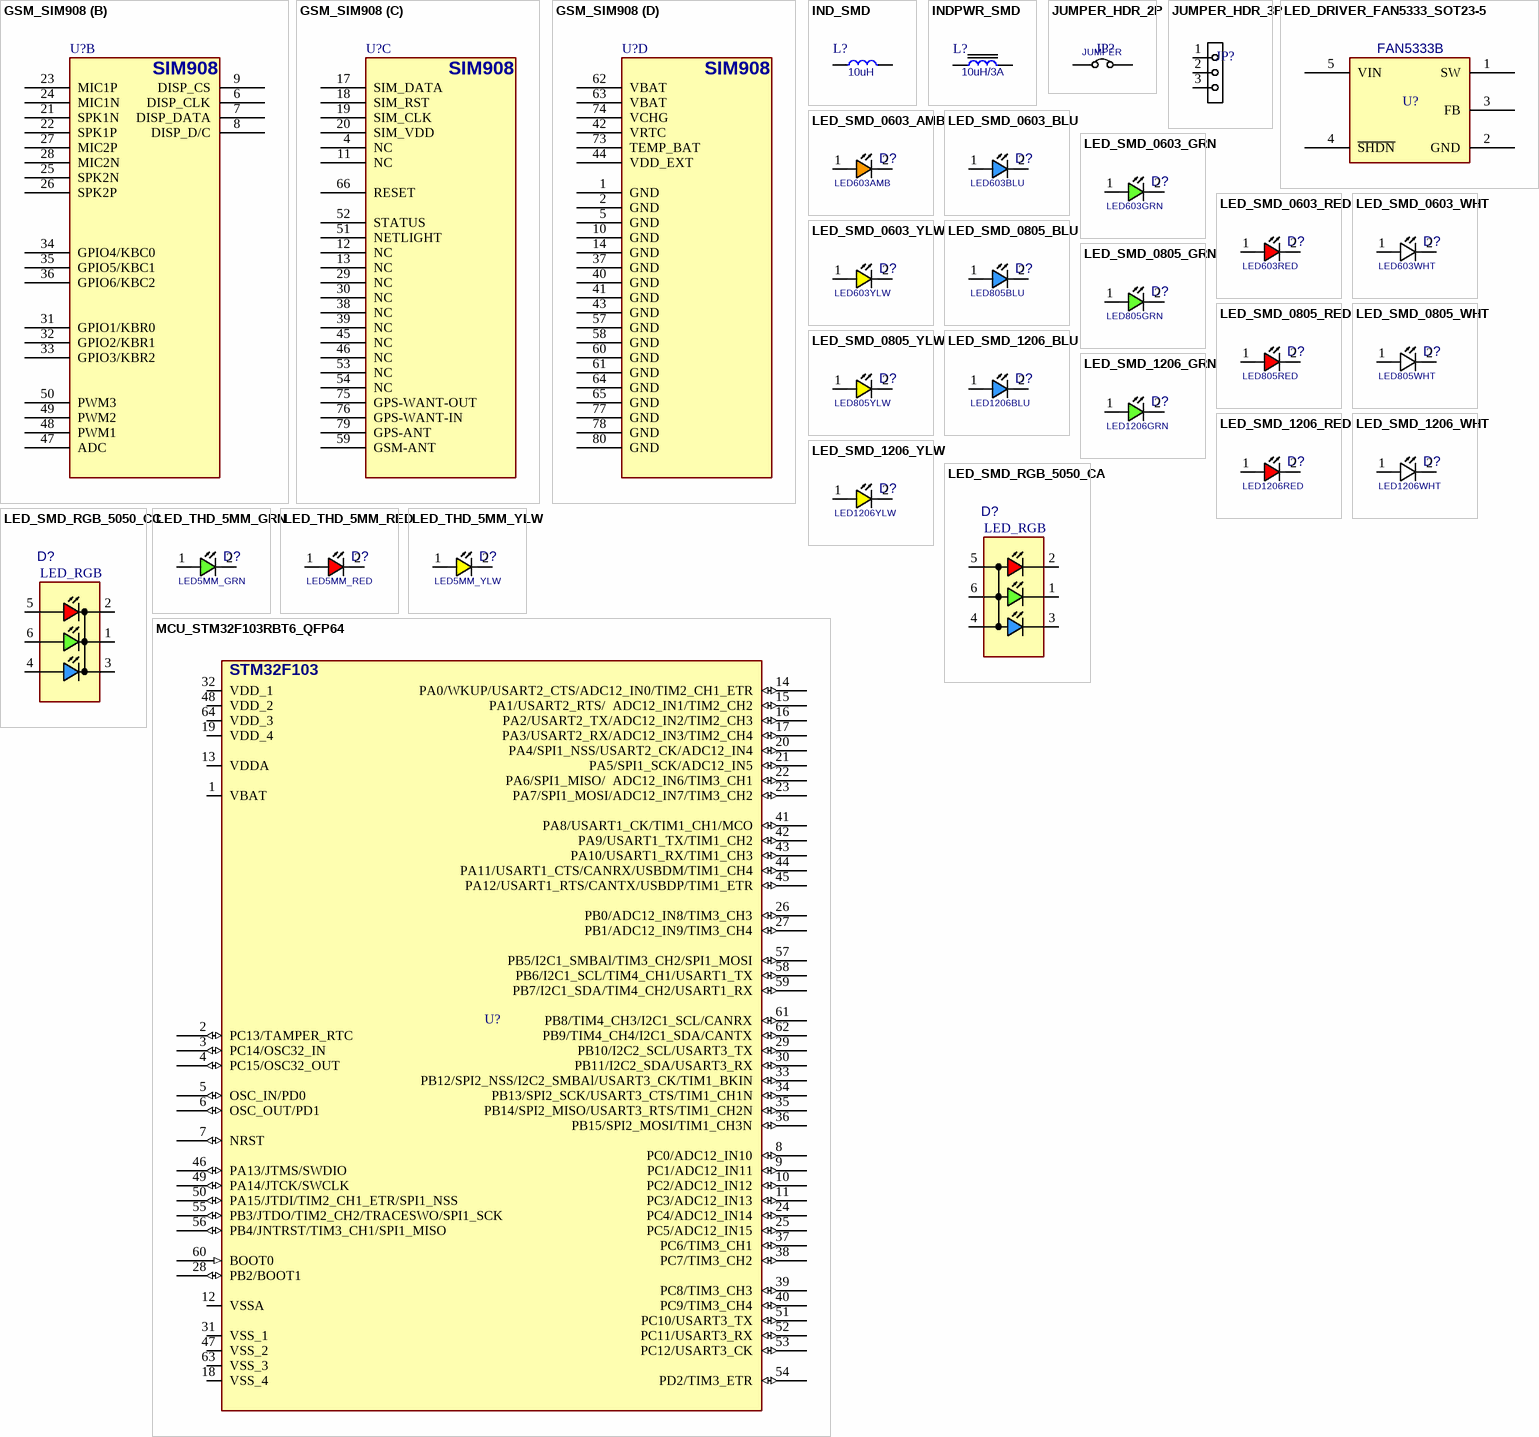
[diagram p9: symbols GSM_SIM908 to MCU_STM32F103RBT6_QFP64]

## GSM_SIM908
designator U?, comment SIM908  (value not drawn)
GSM, 850/900/1800/1900, GPS, GPRS, USSD, UART, 3.2~4.8V; MANF: SIMCom; PARAM2: 3.2~4.8VCC; MANF_P#: SIM908; PARAM: 850/900/1800/1900, GPS, GPRS, USSD, UART; VALUE: SIM908
footprint GSM_SIM908 (SimCom Sim908 GPS/GSM)
part A pins: 6 PCM_OUT, 12 PCM_IN, 14 PCM_SYNC, 15 GPS/DBG_TXD, 16 GPS/DBG_RXD, 55 I2C_SCL, 56 I2C_SDA, 67 CTS, 68 PCM_CLK, 68 RXD, 69 RI, 70 DCD, 71 TXD, 72 DTR
part B pins: 6 DISP_CLK, 7 DISP_DATA, 8 DISP_D/C, 9 DISP_CS, 21 SPK1N, 22 SPK1P, 23 MIC1P, 24 MIC1N, 25 SPK2N, 26 SPK2P, 27 MIC2P, 28 MIC2N, 31 GPIO1/KBR0, 32 GPIO2/KBR1, 33 GPIO3/KBR2, 34 GPIO4/KBC0, 35 GPIO5/KBC1, 36 GPIO6/KBC2, 47 ADC, 48 PWM1, 49 PWM2, 50 PWM3
part C pins: 4 NC, 11 NC, 12 NC, 13 NC, 17 SIM_DATA, 18 SIM_RST, 19 SIM_CLK, 20 SIM_VDD, 29 NC, 30 NC, 38 NC, 39 NC, 45 NC, 46 NC, 51 NETLIGHT, 52 STATUS, 53 NC, 54 NC, 59 GSM-ANT, 66 RESET, 75 GPS-WANT-OUT, 76 GPS-WANT-IN, 79 GPS-ANT
part D pins: 1 GND (power), 2 GND (power), 5 GND (power), 10 GND (power), 14 GND (power), 37 GND (power), 40 GND (power), 41 GND (power), 42 VRTC, 43 GND (power), 44 VDD_EXT (power), 57 GND (power), 58 GND (power), 60 GND (power), 61 GND (power), 62 VBAT (power), 63 VBAT (power), 64 GND (power), 65 GND (power), 73 TEMP_BAT, 74 VCHG, 77 GND (power), 78 GND, 80 GND (power)

## IND_SMD
designator L?, comment 10uH
INDUCTOR, SMD; VALUE: 10uH
footprint L0603 (INDUCTOR, FERRITE BEAD, 0603, 1.6X0.8mm)
pins: 1, 2

## INDPWR_SMD
designator L?, comment 10uH/3A
INDUCTOR, POWER, SMD; VALUE: 10uH/3A
footprint L_12 (INDUCTOR, 13.5x12.5mm, DR125, CDRH127, D128C 931AS)
footprint L_3 (INDUCTOR, 3.0X3.2mm, VLS3012)
footprint L_4 (INDUCTOR, 3.8x3.8mm, 3.7x3.5mm, WURTH 744031470)
footprint L_5 (INDUCTOR, 5.0X5.0mm)
footprint L_6 (INDUCTOR, 6.0X6.0mm)
footprint L_7 (INDUCTOR, 7.2X6.9mm, 7.1X6.5mm, SPM6530)
footprint L_8 (INDUCTOR, 7.5X7.5mm, 8x8, DR74)
footprint L_10 (INDUCTOR, 10.35X10.35mm, CDRH104R, MSS1038 (coilcraft))
footprint L_2 (INDUCTOR, 2.0X2.0mm)
footprint L1007 (INDUCTOR, 2518 [1007], 2.5X1.8mm)
footprint L1008 (INDUCTOR, 2520 1008, 2.5X2.0mm)
pins: 1, 2

## JUMPER_HDR_2P
designator JP?, comment JUMPER
JUMPER, HEADER 2PIN; MANF: MANF; MANF_P#: MANF_P#; VALUE: JUMPER
footprint JP_2 (Jumper Header 2.54mm Pitch, Vertical)
footprint JP_2_BLU (Jumper Header 2.54mm Pitch, Vertical, BLUE)
footprint JP_2_BLK (Jumper Header 2.54mm Pitch, Vertical, BLACK)
footprint JP_2_RED (Jumper Header 2.54mm Pitch, Vertical, RED)
footprint JP_2_GRN (Jumper Header 2.54mm Pitch, Vertical, GREEN)
pins: 1, 2

## JUMPER_HDR_3P
designator JP?, comment JMPHDR3PIN  (value not drawn)
JUMPER, HEADER 3PIN; MANF: MANF; MANF_P#: MANF_P#; VALUE: JMPHDR3PIN
footprint JP_3 (Jumper Header 2.54mm Pitch, 3PIN, Vertical)
pins: 1, 2, 3

## LED_DRIVER_FAN5333_SOT23-5
designator U?, comment FAN5333B
5.5 V 1.5 MHz High Efficiency High Current Serial LED Driver; PARAM2: 5V (VDD); MANF_P#: FAN5333B; PARAM: PARAM; VALUE: FAN5333B
pins: 1 SW, 2 GND, 3 FB, 4 ~{SHDN}, 5 VIN

## LED_SMD_0603_AMB
designator D?, comment LED603AMB
LED, SMD, 0603, AMBER, 606nm; PARAM: 30mA; MANF: OSRAM; DESC: DESCRIPTION; MANF_P#: L29K-H2K1-24-Z; PARAM2: 1.8V; ASSEMBLY: ASSEMBLY; PRICE: PRICE; VALUE: LED603AMB
footprint LED0603AMB (LED SMD 0603, AMBER)
pins: 1 ANODE, 2 CATHODE

## LED_SMD_0603_BLU
designator D?, comment LED603BLU
LED, SMD, 0603, BLUE; PARAM: 30mA, 470nm, 120° Angle; DESC: DESCRIPTION; MANF_P#: MANF_PART#; PARAM2: 2.2~3V; MANF: MANF; ASSEMBLY: ASSEMBLY; PRICE: PRICE; VALUE: LED603BLU
footprint LED0603BLU (LED SMD 0603, BLUE)
pins: 1 ANODE, 2 CATHODE

## LED_SMD_0603_GRN
designator D?, comment LED603GRN
LED, SMD, 0603, GREEN; PARAM: 20mA; MANF: Kingbright; DESC: DESCRIPTION; MANF_P#: APT1608SGC; PARAM2: 2.2V; ASSEMBLY: ASSEMBLY; PRICE: 1: 0.14$, 100: 6.8$; VALUE: LED603GRN
footprint LED0603GRN (LED SMD 0603, GREEN)
pins: 1 ANODE, 2 CATHODE

## LED_SMD_0603_RED
designator D?, comment LED603RED
LED, SMD, 0603, RED; PARAM: 30mA, 640nm; DESC: DESCRIPTION; MANF_P#: MANF_PART#; PARAM2: 1.8~2.5V; MANF: MANF; ASSEMBLY: ASSEMBLY; PRICE: PRICE; VALUE: LED603RED
footprint LED0603RED (LED SMD 0603, RED)
pins: 1 ANODE, 2 CATHODE

## LED_SMD_0603_WHT
designator D?, comment LED603WHT
LED, SMD, 0603, WHITE; PARAM: 30mA; DESC: DESCRIPTION; MANF_P#: MANF_PART#; PARAM2: 2.7~4V; MANF: MANF; ASSEMBLY: ASSEMBLY; PRICE: PRICE; VALUE: LED603WHT
footprint LED0603WHT (LED SMD 0603, WHITE)
pins: 1 ANODE, 2 CATHODE

## LED_SMD_0603_YLW
designator D?, comment LED603YLW
LED, SMD, 0603, YELLOW; DESC: DESCRIPTION; MANF_P#: MANF_PART#; PARAM2: 2.2V; MANF: MANF; ASSEMBLY: ASSEMBLY; PRICE: PRICE; VALUE: LED603YLW
footprint LED0603YLW (LED SMD 0603, YELLOW)
pins: 1 ANODE, 2 CATHODE

## LED_SMD_0805_BLU
designator D?, comment LED805BLU
LED, SMD, 0805, BLUE; DESC: DESCRIPTION; MANF_P#: MANF_PART#; PARAM2: 2.2V; MANF: MANF; ASSEMBLY: ASSEMBLY; PRICE: 36t@Javan; VALUE: LED805BLU
footprint LED0805BLU (LED SMD 0805, BLUE)
pins: 1 ANODE, 2 CATHODE

## LED_SMD_0805_GRN
designator D?, comment LED805GRN
LED, SMD, 0805, GREEN; PARAM: 20mA; DESC: DESCRIPTION; PARAM2: 2.2V; MANF: -; ASSEMBLY: ASSEMBLY; PRICE: 36t@Javan; MANF_P#: -; VALUE: LED805GRN
footprint LED0805GRN (LED SMD 0805, GREEN)
pins: 1 ANODE, 2 CATHODE

## LED_SMD_0805_RED
designator D?, comment LED805RED
LED, SMD, 0805, RED; DESC: DESCRIPTION; MANF_P#: MANF_PART#; PARAM2: 2.2V; MANF: MANF; ASSEMBLY: ASSEMBLY; PRICE: 36t@Javan; VALUE: LED805RED
footprint LED0805RED (LED SMD 0805, RED)
pins: 1 ANODE, 2 CATHODE

## LED_SMD_0805_WHT
designator D?, comment LED805WHT
LED, SMD, 0805, WHITE; DESC: DESCRIPTION; MANF_P#: MANF_PART#; PARAM2: 2.2V; MANF: MANF; ASSEMBLY: ASSEMBLY; PRICE: 36t@Javan; VALUE: LED805WHT
footprint LED0805WHT (LED SMD 0805, WHITE)
pins: 1 ANODE, 2 CATHODE

## LED_SMD_0805_YLW
designator D?, comment LED805YLW
LED, SMD, 0805, YELLOW; DESC: DESCRIPTION; MANF_P#: MANF_PART#; PARAM2: 2.2V; MANF: MANF; ASSEMBLY: ASSEMBLY; PRICE: 36t@Javan; VALUE: LED805YLW
footprint LED0805YLW (LED SMD 0805, YELLOW)
pins: 1 ANODE, 2 CATHODE

## LED_SMD_1206_BLU
designator D?, comment LED1206BLU
LED, SMD, 1206, BLUE; DESC: DESCRIPTION; MANF_P#: MANF_PART#; PARAM2: 2.2V; MANF: MANF; ASSEMBLY: ASSEMBLY; PRICE: 36t@Javan; VALUE: LED1206BLU
footprint LED1206BLU (LED, 1206, BLUE)
pins: 1 ANODE, 2 CATHODE

## LED_SMD_1206_GRN
designator D?, comment LED1206GRN
LED, SMD, 1206, GREEN; PARAM: 20mA; DESC: DESCRIPTION; PARAM2: 2.2V; MANF: -; ASSEMBLY: ASSEMBLY; PRICE: 36t@Javan; MANF_P#: -; VALUE: LED1206GRN
footprint LED1206GRN (LED, 1206, GREEN)
pins: 1 ANODE, 2 CATHODE

## LED_SMD_1206_RED
designator D?, comment LED1206RED
LED, SMD, 1206, RED; DESC: DESCRIPTION; MANF_P#: MANF_PART#; PARAM2: 2.2V; MANF: MANF; ASSEMBLY: ASSEMBLY; PRICE: 36t@Javan; VALUE: LED1206RED
footprint LED1206RED (LED, 1206, RED)
pins: 1 ANODE, 2 CATHODE

## LED_SMD_1206_WHT
designator D?, comment LED1206WHT
LED, SMD, 1206, WHITE; DESC: DESCRIPTION; MANF_P#: MANF_PART#; PARAM2: 2.2V; MANF: MANF; ASSEMBLY: ASSEMBLY; PRICE: 36t@Javan; VALUE: LED1206WHT
footprint LED1206WHT (LED, 1206, WHITE)
pins: 1 ANODE, 2 CATHODE

## LED_SMD_1206_YLW
designator D?, comment LED1206YLW
LED, SMD, 1206, YELLOW; DESC: DESCRIPTION; MANF_P#: MANF_PART#; PARAM2: 2.2V; MANF: MANF; ASSEMBLY: ASSEMBLY; PRICE: 36t@Javan; VALUE: LED1206YLW
footprint LED1206YLW (LED, 1206, YELLOW)
pins: 1 ANODE, 2 CATHODE

## LED_SMD_RGB_5050_CA
designator D?, comment LED_RGB
LED, SMD, RGB COMMON ANODE; PARAM: 30mA, 120°; DESC: DESCRIPTION; PARAM2: RED2V, GRN3.2V, BLU3.2V; MANF_P#: -; MANF: -; ASSEMBLY: ASSEMBLY; PRICE: 80t@JAVAN; VALUE: LED_RGB
footprint LED5050RGB (LED 5mmX5mm, PLLC6)
pins: 1 RED, 2 GRN, 3 BLU, 4 AB, 5 AG, 6 AR

## LED_SMD_RGB_5050_CC
designator D?, comment LED_RGB
LED, SMD, RGB COMMON CATHODE; PARAM: 30mA, 120°; DESC: DESCRIPTION; PARAM2: RED2V, GRN3.2V, BLU3.2V; MANF_P#: -; MANF: -; ASSEMBLY: ASSEMBLY; PRICE: 95t@JAVAN; VALUE: LED_RGB
footprint LED5050RGB (LED 5mmX5mm, PLLC6)
pins: 1 RED, 2 GRN, 3 BLU, 4 AB, 5 AG, 6 AR

## LED_THD_5MM_GRN
designator D?, comment LED5MM_GRN
LED, THD, 5MM, GREEN; DESC: DESCRIPTION; MANF_P#: MANF_PART#; PARAM2: 2.2V; MANF: MANF; ASSEMBLY: ASSEMBLY; PRICE: PRICE; VALUE: LED5MM_GRN
footprint LED5MM_GRN (LED 5MM THROUGH HOLE GREEN)
pins: 1 ANODE, 2 CATHODE

## LED_THD_5MM_RED
designator D?, comment LED5MM_RED
LED, THD, 5MM, RED; DESC: DESCRIPTION; MANF_P#: MANF_PART#; PARAM2: 2.2V; MANF: MANF; ASSEMBLY: ASSEMBLY; PRICE: PRICE; VALUE: LED5MM_RED
footprint LED5MM_RED (LED 5MM THROUGH HOLE RED)
pins: 1 ANODE, 2 CATHODE

## LED_THD_5MM_YLW
designator D?, comment LED5MM_YLW
LED, THD, 5MM, YELLOW; DESC: DESCRIPTION; MANF_P#: MANF_PART#; PARAM2: 2.2V; MANF: MANF; ASSEMBLY: ASSEMBLY; PRICE: PRICE; VALUE: LED5MM_YLW
footprint LED5MM_YLO (LED 5MM THROUGH HOLE YELLOW)
pins: 1 ANODE, 2 CATHODE

## MCU_STM32F103RBT6_QFP64
designator U?, comment STM32F103RBT6  (value not drawn)
MCU, STM32 ARM 32-bit, Cortex M3, 128KB FLASH, 20KB SRAM; DESC: USB, CAN, I2C, SPI, UART; MANF: ST; PARAM2: 2~3.6VCC, 72MHz, 2X12Bit ADC; PARAM: 128KB FLASH, 20KB SRAM, -40~85oC; MANF_P#: STM32F103RBT6; PRICE: 7$; VALUE: STM32F103RBT6
footprint QFG50_64 (A64 (CYPRESS), TQFP64, LQFP64, VQ44, VQG44, 10X10mm, Pitch: 0.5mm)
pins: 1 VBAT (power), 2 PC13/TAMPER_RTC (io) "PC13-TAMPER-RTC/PC13/TAMPER-RTC", 3 PC14/OSC32_IN (io) "PC14-OSC32_IN/PC14/OSC32_IN", 4 PC15/OSC32_OUT (io) "PC15-OSC32_OUT/PC15/OSC32_OUT", 5 OSC_IN/PD0 (io) "PD0/OSC_IN/CAN_RX", 6 OSC_OUT/PD1 (io) "PD1/OSC_OUT/CAN_TX", 7 NRST (io), 8 PC0/ADC12_IN10 (io) "PC0/ADC123_IN10", 9 PC1/ADC12_IN11 (io) "PC1/ADC123_IN11", 10 PC2/ADC12_IN12 (io) "PC2/ADC123_IN12", 11 PC3/ADC12_IN13 (io) "PC3/ADC123_IN13", 12 VSSA (power), 13 VDDA (power), 14 PA0/WKUP/USART2_CTS/ADC12_IN0/TIM2_CH1_ETR (io) "PA0-WKUP/PA0/WKUP/USART2_CTS/ADC123_IN0/TIM2_CH1_ETR/TIM5_CH1/TIM8_ETR", 15 PA1/USART2_RTS/  ADC12_IN1/TIM2_CH2 (io) "PA1/USART2_RTS/ADC123_IN1/TIM5_CH2/TIM2_CH2", 16 PA2/USART2_TX/ADC12_IN2/TIM2_CH3 (io) "PA2/USART2_TX/TIM5_CH3/ADC123_IN2/TIM2_CH3", 17 PA3/USART2_RX/ADC12_IN3/TIM2_CH4 (io) "PA3/USART2_RX/TIM5_CH4/ADC123_IN3/TIM2_CH4", 18 VSS_4 (power), 19 VDD_4 (power), 20 PA4/SPI1_NSS/USART2_CK/ADC12_IN4 (io) "PA4/SPI1_NSS/USART2_CK/DAC_OUT1/ADC12_IN4", 21 PA5/SPI1_SCK/ADC12_IN5 (io) "PA5/SPI1_SCK/DAC_OUT2/ADC12_IN5", 22 PA6/SPI1_MISO/  ADC12_IN6/TIM3_CH1 (io) "PA6/SPI1_MISO/TIM8_BKIN/ADC12_IN6/TIM3_CH1/TIM1_BKIN", 23 PA7/SPI1_MOSI/ADC12_IN7/TIM3_CH2 (io) "PA7/SPI1_MOSI/TIM8_CH1N/ADC12_IN7/TIM3_CH2/TIM1_CH1N", 24 PC4/ADC12_IN14 (io), 25 PC5/ADC12_IN15 (io), 26 PB0/ADC12_IN8/TIM3_CH3 (io) "PB0/ADC12_IN8/TIM3_CH3/TIM8_CH2N/TIM1_CH2N", 27 PB1/ADC12_IN9/TIM3_CH4 (io) "PB1/ADC12_IN9/TIM3_CH4/TIM8_CH3N/TIM1_CH3N", 28 PB2/BOOT1 (io), 29 PB10/I2C2_SCL/USART3_TX (io) "PB10/I2C2_SCL/USART3_TX/TIM2_CH3", 30 PB11/I2C2_SDA/USART3_RX (io) "PB11/I2C2_SDA/USART3_RX/TIM2_CH4", 31 VSS_1 (power), 32 VDD_1 (power), 33 PB12/SPI2_NSS/I2C2_SMBAl/USART3_CK/TIM1_BKIN (io) "PB12/SPI2_NSS/I2S2_WS/I2C2_SMBA/USART3_CK/TIM1_BKIN", 34 PB13/SPI2_SCK/USART3_CTS/TIM1_CH1N (io) "PB13/SPI2_SCK/I2S2_CK/USART3_CTS/TIM1_CH1N", 35 PB14/SPI2_MISO/USART3_RTS/TIM1_CH2N (io) "PB14/SPI2_MISO/TIM1_CH2N/USART3_RTS", 36 PB15/SPI2_MOSI/TIM1_CH3N (io) "PB15/SPI2_MOSI/I2S2_SD/TIM1_CH3N", 37 PC6/TIM3_CH1 (io) "PC6/I2S2_MCK/TIM8_CH1/SDIO_D6/TIM3_CH1", 38 PC7/TIM3_CH2 (io) "PC7/I2S3_MCK/TIM8_CH2/SDIO_D7/TIM3_CH2", 39 PC8/TIM3_CH3 (io) "PC8/TIM8_CH3/SDIO_D0/TIM3_CH3", 40 PC9/TIM3_CH4 (io) "PC9/TIM8_CH4/SDIO_D1/TIM3_CH4", 41 PA8/USART1_CK/TIM1_CH1/MCO (io), 42 PA9/USART1_TX/TIM1_CH2 (io), 43 PA10/USART1_RX/TIM1_CH3 (io), 44 PA11/USART1_CTS/CANRX/USBDM/TIM1_CH4 (io) "PA11/USART1_CTS/USBDM/CAN_RX/TIM1_CH4", 45 PA12/USART1_RTS/CANTX/USBDP/TIM1_ETR (io) "PA12/USART1_RTS/USBDP/CAN_TX/TIM1_ETR", 46 PA13/JTMS/SWDIO (io) "PA13/JTMS-SWDIO", 47 VSS_2 (power), 48 VDD_2 (power), 49 PA14/JTCK/SWCLK (io) "PA14/JTCK-SWCLK", 50 PA15/JTDI/TIM2_CH1_ETR/SPI1_NSS (io) "PA15/JTDI/SPI3_NSS/I2S3_WS/TIM2_CH1_ETR/SPI1_NSS", 51 PC10/USART3_TX (io) "PC10/UART4_TX/SDIO_D2/USART3_TX", 52 PC11/USART3_RX (io) "PC11/UART4_RX/SDIO_D3/USART3_RX", 53 PC12/USART3_CK (io) "PC12/UART5_TX/SDIO_CK/USART3_CK", 54 PD2/TIM3_ETR (io) "PD2/TIM3_ETR/UART5_RX/SDIO_CMD", 55 PB3/JTDO/TIM2_CH2/TRACESWO/SPI1_SCK (io) "PB3/JTDO/SPI3_SCK/I2S3_CK/TRACESWO/TIM2_CH2/SPI1_SCK", 56 PB4/JNTRST/TIM3_CH1/SPI1_MISO (io) "PB4/NJTRST/SPI3_MISO/TIM3_CH1/SPI1_MISO", 57 PB5/I2C1_SMBAl/TIM3_CH2/SPI1_MOSI (io) "PB5/I2C1_SMBA/SPI3_MOSI/I2S3_SD/TIM3_CH2/SPI1_MOSI", 58 PB6/I2C1_SCL/TIM4_CH1/USART1_TX (io), 59 PB7/I2C1_SDA/TIM4_CH2/USART1_RX (io), 60 BOOT0 (in), 61 PB8/TIM4_CH3/I2C1_SCL/CANRX (io) "PB8/TIM4_CH3/SDIO_D4/I2C1_SCL/CAN_RX", 62 PB9/TIM4_CH4/I2C1_SDA/CANTX (io) "PB9/TIM4_CH4/SDIO_D5/I2C1_SDA/CAN_TX", 63 VSS_3 (power), 64 VDD_3 (power)
text: STM32F103

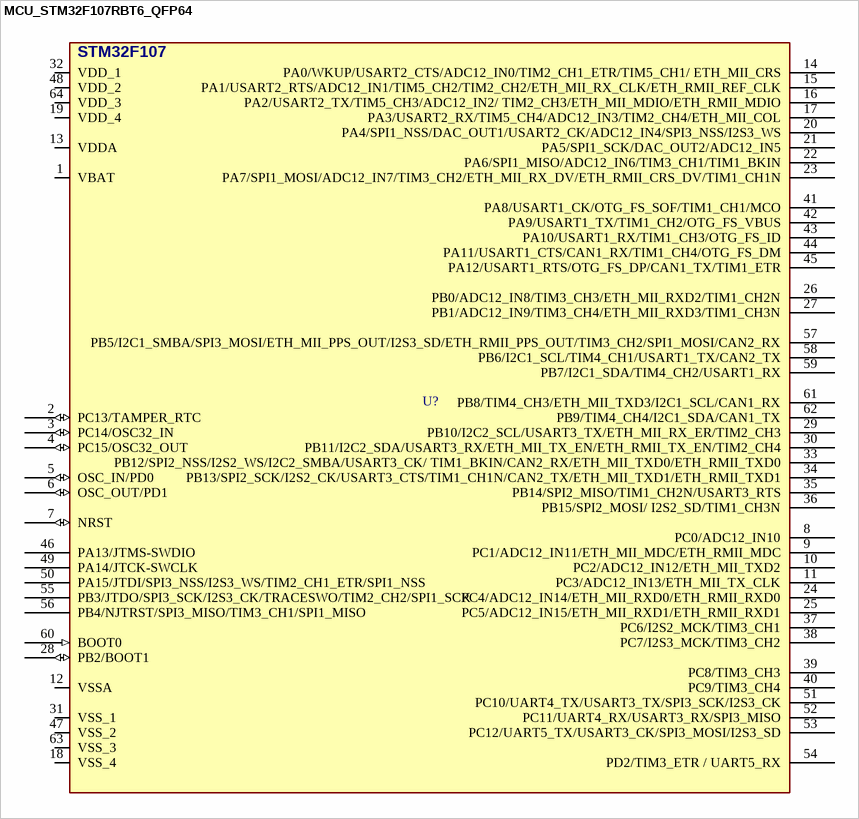
[diagram p10: symbol MCU_STM32F107RBT6_QFP64]

## MCU_STM32F107RBT6_QFP64
designator U?, comment STM32F107RBT6  (value not drawn)
MCU, STM32 ARM 32-bit, Cortex M3, 128KB FLASH, 64KB SRAM; DESC: USB OTG, ETHERNET, 2ADC, DAC, CAN, I2C, SPI, UART; MANF: ST; PARAM2: 2~3.6VCC, 72MHz, 2X12Bit ADC, 2X12Bit DAC; PARAM: 128KB FLASH, 64KB SRAM, -40~85oC; MANF_P#: STM32F107RBT6; PRICE: 4$; VALUE: STM32F107RBT6
footprint QFG50_64 (A64 (CYPRESS), TQFP64, LQFP64, VQ44, VQG44, 10X10mm, Pitch: 0.5mm)
pins: 1 VBAT (power), 2 PC13/TAMPER_RTC (io) "PC13-TAMPER-RTC/PC13/TAMPER-RTC", 3 PC14/OSC32_IN (io) "PC14-OSC32_IN/PC14/OSC32_IN", 4 PC15/OSC32_OUT (io) "PC15-OSC32_OUT/PC15/OSC32_OUT", 5 OSC_IN/PD0 (io) "PD0/OSC_IN/CAN_RX", 6 OSC_OUT/PD1 (io) "PD1/OSC_OUT/CAN_TX", 7 NRST (io), 8 PC0/ADC12_IN10, 9 PC1/ADC12_IN11/ETH_MII_MDC/ETH_RMII_MDC, 10 PC2/ADC12_IN12/ETH_MII_TXD2, 11 PC3/ADC12_IN13/ETH_MII_TX_CLK, 12 VSSA (power), 13 VDDA (power), 14 PA0/WKUP/USART2_CTS/ADC12_IN0/TIM2_CH1_ETR/TIM5_CH1/ ETH_MII_CRS, 15 PA1/USART2_RTS/ADC12_IN1/TIM5_CH2/TIM2_CH2/ETH_MII_RX_CLK/ETH_RMII_REF_CLK, 16 PA2/USART2_TX/TIM5_CH3/ADC12_IN2/ TIM2_CH3/ETH_MII_MDIO/ETH_RMII_MDIO, 17 PA3/USART2_RX/TIM5_CH4/ADC12_IN3/TIM2_CH4/ETH_MII_COL, 18 VSS_4 (power), 19 VDD_4 (power), 20 PA4/SPI1_NSS/DAC_OUT1/USART2_CK/ADC12_IN4/SPI3_NSS/I2S3_WS, 21 PA5/SPI1_SCK/DAC_OUT2/ADC12_IN5, 22 PA6/SPI1_MISO/ADC12_IN6/TIM3_CH1/TIM1_BKIN, 23 PA7/SPI1_MOSI/ADC12_IN7/TIM3_CH2/ETH_MII_RX_DV/ETH_RMII_CRS_DV/TIM1_CH1N, 24 PC4/ADC12_IN14/ETH_MII_RXD0/ETH_RMII_RXD0, 25 PC5/ADC12_IN15/ETH_MII_RXD1/ETH_RMII_RXD1, 26 PB0/ADC12_IN8/TIM3_CH3/ETH_MII_RXD2/TIM1_CH2N, 27 PB1/ADC12_IN9/TIM3_CH4/ETH_MII_RXD3/TIM1_CH3N, 28 PB2/BOOT1 (io), 29 PB10/I2C2_SCL/USART3_TX/ETH_MII_RX_ER/TIM2_CH3, 30 PB11/I2C2_SDA/USART3_RX/ETH_MII_TX_EN/ETH_RMII_TX_EN/TIM2_CH4, 31 VSS_1 (power), 32 VDD_1 (power), 33 PB12/SPI2_NSS/I2S2_WS/I2C2_SMBA/USART3_CK/ TIM1_BKIN/CAN2_RX/ETH_MII_TXD0/ETH_RMII_TXD0, 34 PB13/SPI2_SCK/I2S2_CK/USART3_CTS/TIM1_CH1N/CAN2_TX/ETH_MII_TXD1/ETH_RMII_TXD1, 35 PB14/SPI2_MISO/TIM1_CH2N/USART3_RTS, 36 PB15/SPI2_MOSI/ I2S2_SD/TIM1_CH3N, 37 PC6/I2S2_MCK/TIM3_CH1, 38 PC7/I2S3_MCK/TIM3_CH2, 39 PC8/TIM3_CH3, 40 PC9/TIM3_CH4, 41 PA8/USART1_CK/OTG_FS_SOF/TIM1_CH1/MCO, 42 PA9/USART1_TX/TIM1_CH2/OTG_FS_VBUS, 43 PA10/USART1_RX/TIM1_CH3/OTG_FS_ID, 44 PA11/USART1_CTS/CAN1_RX/TIM1_CH4/OTG_FS_DM, 45 PA12/USART1_RTS/OTG_FS_DP/CAN1_TX/TIM1_ETR, 46 PA13/JTMS-SWDIO, 47 VSS_2 (power), 48 VDD_2 (power), 49 PA14/JTCK-SWCLK, 50 PA15/JTDI/SPI3_NSS/I2S3_WS/TIM2_CH1_ETR/SPI1_NSS, 51 PC10/UART4_TX/USART3_TX/SPI3_SCK/I2S3_CK, 52 PC11/UART4_RX/USART3_RX/SPI3_MISO, 53 PC12/UART5_TX/USART3_CK/SPI3_MOSI/I2S3_SD, 54 PD2/TIM3_ETR / UART5_RX, 55 PB3/JTDO/SPI3_SCK/I2S3_CK/TRACESWO/TIM2_CH2/SPI1_SCK, 56 PB4/NJTRST/SPI3_MISO/TIM3_CH1/SPI1_MISO, 57 PB5/I2C1_SMBA/SPI3_MOSI/ETH_MII_PPS_OUT/I2S3_SD/ETH_RMII_PPS_OUT/TIM3_CH2/SPI1_MOSI/CAN2_RX, 58 PB6/I2C1_SCL/TIM4_CH1/USART1_TX/CAN2_TX, 59 PB7/I2C1_SDA/TIM4_CH2/USART1_RX, 60 BOOT0 (in), 61 PB8/TIM4_CH3/ETH_MII_TXD3/I2C1_SCL/CAN1_RX, 62 PB9/TIM4_CH4/I2C1_SDA/CAN1_TX, 63 VSS_3 (power), 64 VDD_3 (power)
text: STM32F107

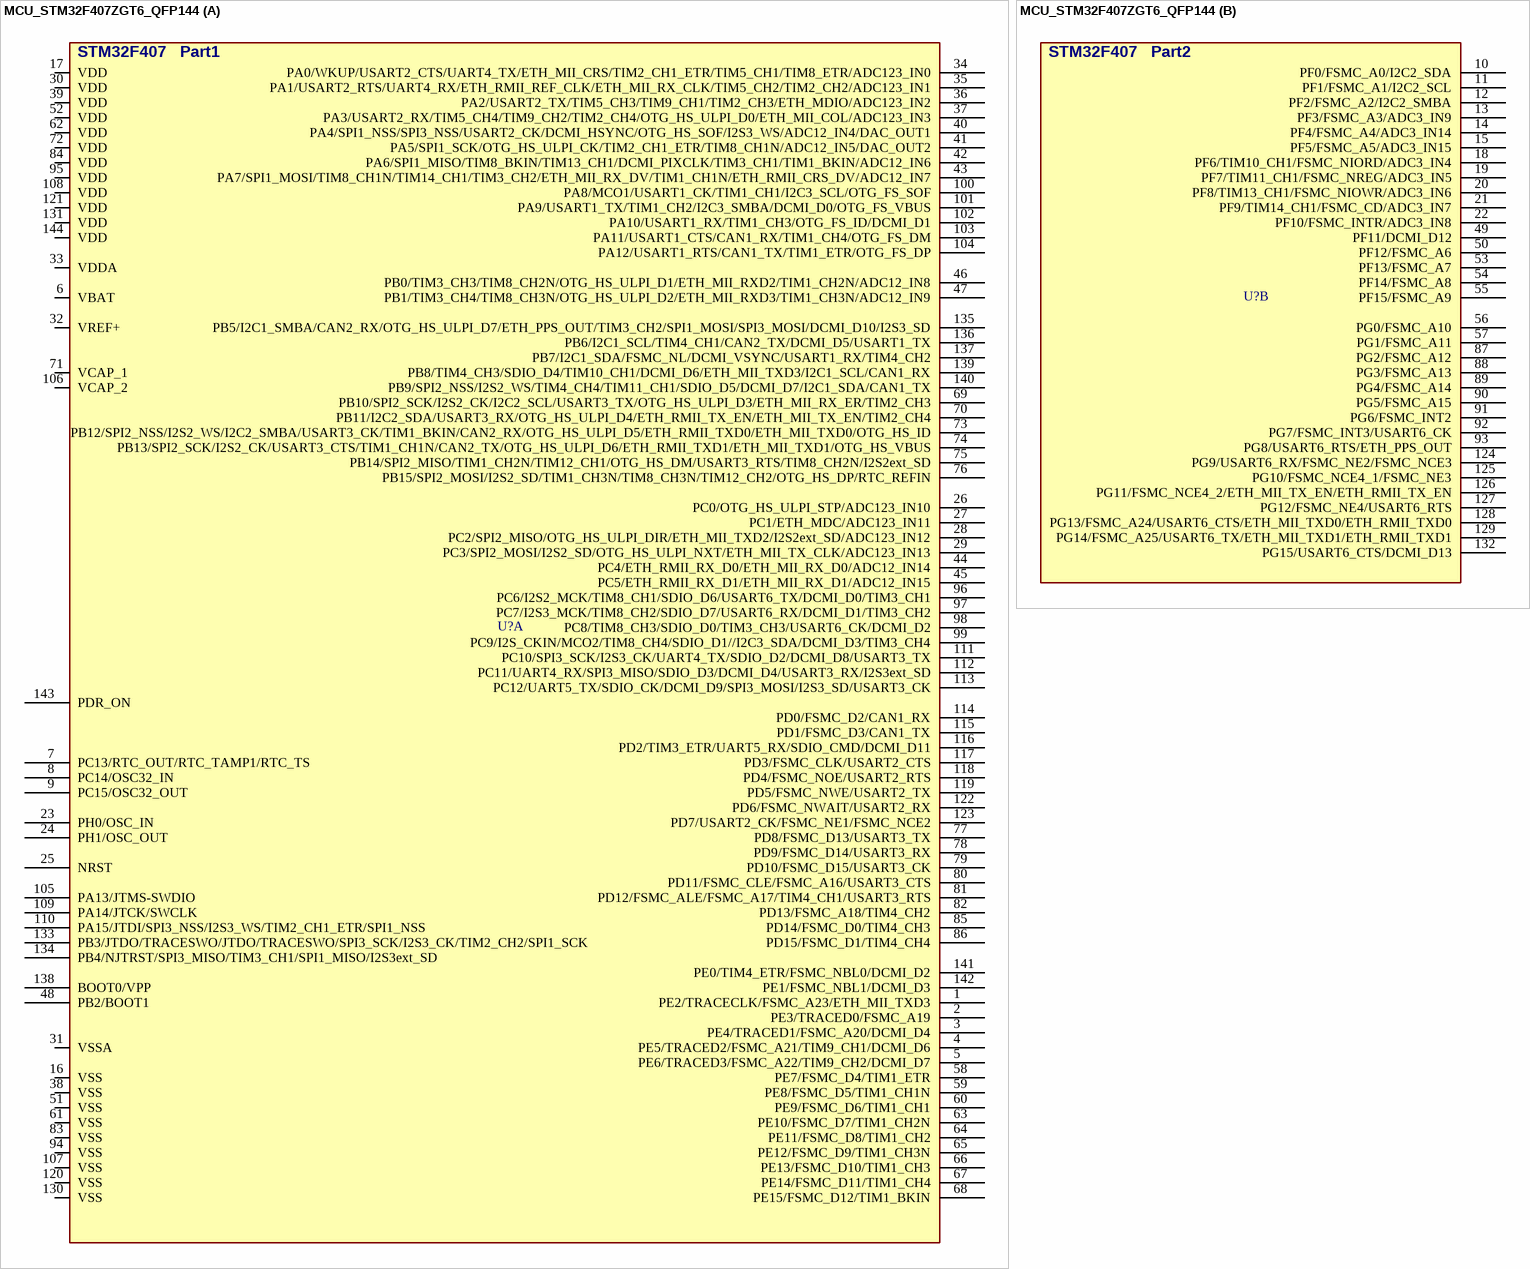
[diagram p11: symbol MCU_STM32F407ZGT6_QFP144]

## MCU_STM32F407ZGT6_QFP144
designator U?, comment STM32F407  (value not drawn)
MCU, STM32 ARM 32-bit, Cortex M4, 1MB FLASH, 192KB SRAM; DESC: USB_OTG HS/FS, Ethernet, 3 ADCs, DAC, CAN, I2C, SPI, UART, camera; MANF: ST; MANF_P#: STM32F407ZGT6; PARAM2: 1.8~3.6VCC, 168MHz, 3X12Bit 2.4MSPS ADC; PARAM: 1MB FLASH, 192KB SRAM, -40~105oC; PRICE: 13$; VALUE: STM32F407
footprint QFG50_144 (LQFP144, TQFP144, A144 (Cypress), HT144/TQ144 TQG144 (Xilinx), MS-026, MO-136(JEDEC), LQFP PGE, 20X20mm, Pitch 0.50mm, HT144, HTG144)
part A pins: 1 PE2/TRACECLK/FSMC_A23/ETH_MII_TXD3, 2 PE3/TRACED0/FSMC_A19, 3 PE4/TRACED1/FSMC_A20/DCMI_D4, 4 PE5/TRACED2/FSMC_A21/TIM9_CH1/DCMI_D6, 5 PE6/TRACED3/FSMC_A22/TIM9_CH2/DCMI_D7, 6 VBAT, 7 PC13/RTC_OUT/RTC_TAMP1/RTC_TS, 8 PC14/OSC32_IN, 9 PC15/OSC32_OUT, 16 VSS, 17 VDD, 23 PH0/OSC_IN, 24 PH1/OSC_OUT, 25 NRST, 26 PC0/OTG_HS_ULPI_STP/ADC123_IN10, 27 PC1/ETH_MDC/ADC123_IN11, 28 PC2/SPI2_MISO/OTG_HS_ULPI_DIR/ETH_MII_TXD2/I2S2ext_SD/ADC123_IN12, 29 PC3/SPI2_MOSI/I2S2_SD/OTG_HS_ULPI_NXT/ETH_MII_TX_CLK/ADC123_IN13, 30 VDD, 31 VSSA, 32 VREF+, 33 VDDA, 34 PA0/WKUP/USART2_CTS/UART4_TX/ETH_MII_CRS/TIM2_CH1_ETR/TIM5_CH1/TIM8_ETR/ADC123_IN0, 35 PA1/USART2_RTS/UART4_RX/ETH_RMII_REF_CLK/ETH_MII_RX_CLK/TIM5_CH2/TIM2_CH2/ADC123_IN1, 36 PA2/USART2_TX/TIM5_CH3/TIM9_CH1/TIM2_CH3/ETH_MDIO/ADC123_IN2, 37 PA3/USART2_RX/TIM5_CH4/TIM9_CH2/TIM2_CH4/OTG_HS_ULPI_D0/ETH_MII_COL/ADC123_IN3, 38 VSS, 39 VDD, 40 PA4/SPI1_NSS/SPI3_NSS/USART2_CK/DCMI_HSYNC/OTG_HS_SOF/I2S3_WS/ADC12_IN4/DAC_OUT1, 41 PA5/SPI1_SCK/OTG_HS_ULPI_CK/TIM2_CH1_ETR/TIM8_CH1N/ADC12_IN5/DAC_OUT2, 42 PA6/SPI1_MISO/TIM8_BKIN/TIM13_CH1/DCMI_PIXCLK/TIM3_CH1/TIM1_BKIN/ADC12_IN6, 43 PA7/SPI1_MOSI/TIM8_CH1N/TIM14_CH1/TIM3_CH2/ETH_MII_RX_DV/TIM1_CH1N/ETH_RMII_CRS_DV/ADC12_IN7, 44 PC4/ETH_RMII_RX_D0/ETH_MII_RX_D0/ADC12_IN14, 45 PC5/ETH_RMII_RX_D1/ETH_MII_RX_D1/ADC12_IN15, 46 PB0/TIM3_CH3/TIM8_CH2N/OTG_HS_ULPI_D1/ETH_MII_RXD2/TIM1_CH2N/ADC12_IN8, 47 PB1/TIM3_CH4/TIM8_CH3N/OTG_HS_ULPI_D2/ETH_MII_RXD3/TIM1_CH3N/ADC12_IN9, 48 PB2/BOOT1, 51 VSS, 52 VDD, 58 PE7/FSMC_D4/TIM1_ETR, 59 PE8/FSMC_D5/TIM1_CH1N, 60 PE9/FSMC_D6/TIM1_CH1, 61 VSS, 62 VDD, 63 PE10/FSMC_D7/TIM1_CH2N, 64 PE11/FSMC_D8/TIM1_CH2, 65 PE12/FSMC_D9/TIM1_CH3N, 66 PE13/FSMC_D10/TIM1_CH3, 67 PE14/FSMC_D11/TIM1_CH4, 68 PE15/FSMC_D12/TIM1_BKIN, 69 PB10/SPI2_SCK/I2S2_CK/I2C2_SCL/USART3_TX/OTG_HS_ULPI_D3/ETH_MII_RX_ER/TIM2_CH3, 70 PB11/I2C2_SDA/USART3_RX/OTG_HS_ULPI_D4/ETH_RMII_TX_EN/ETH_MII_TX_EN/TIM2_CH4, 71 VCAP_1, 72 VDD, 73 PB12/SPI2_NSS/I2S2_WS/I2C2_SMBA/USART3_CK/TIM1_BKIN/CAN2_RX/OTG_HS_ULPI_D5/ETH_RMII_TXD0/ETH_MII_TXD0/OTG_HS_ID, 74 PB13/SPI2_SCK/I2S2_CK/USART3_CTS/TIM1_CH1N/CAN2_TX/OTG_HS_ULPI_D6/ETH_RMII_TXD1/ETH_MII_TXD1/OTG_HS_VBUS, 75 PB14/SPI2_MISO/TIM1_CH2N/TIM12_CH1/OTG_HS_DM/USART3_RTS/TIM8_CH2N/I2S2ext_SD, 76 PB15/SPI2_MOSI/I2S2_SD/TIM1_CH3N/TIM8_CH3N/TIM12_CH2/OTG_HS_DP/RTC_REFIN, 77 PD8/FSMC_D13/USART3_TX, 78 PD9/FSMC_D14/USART3_RX, 79 PD10/FSMC_D15/USART3_CK, 80 PD11/FSMC_CLE/FSMC_A16/USART3_CTS, 81 PD12/FSMC_ALE/FSMC_A17/TIM4_CH1/USART3_RTS, 82 PD13/FSMC_A18/TIM4_CH2, 83 VSS, 84 VDD, 85 PD14/FSMC_D0/TIM4_CH3, 86 PD15/FSMC_D1/TIM4_CH4, 94 VSS, 95 VDD, 96 PC6/I2S2_MCK/TIM8_CH1/SDIO_D6/USART6_TX/DCMI_D0/TIM3_CH1, 97 PC7/I2S3_MCK/TIM8_CH2/SDIO_D7/USART6_RX/DCMI_D1/TIM3_CH2, 98 PC8/TIM8_CH3/SDIO_D0/TIM3_CH3/USART6_CK/DCMI_D2, 99 PC9/I2S_CKIN/MCO2/TIM8_CH4/SDIO_D1//I2C3_SDA/DCMI_D3/TIM3_CH4, 100 PA8/MCO1/USART1_CK/TIM1_CH1/I2C3_SCL/OTG_FS_SOF, 101 PA9/USART1_TX/TIM1_CH2/I2C3_SMBA/DCMI_D0/OTG_FS_VBUS, 102 PA10/USART1_RX/TIM1_CH3/OTG_FS_ID/DCMI_D1, 103 PA11/USART1_CTS/CAN1_RX/TIM1_CH4/OTG_FS_DM, 104 PA12/USART1_RTS/CAN1_TX/TIM1_ETR/OTG_FS_DP, 105 PA13/JTMS-SWDIO, 106 VCAP_2, 107 VSS, 108 VDD, 109 PA14/JTCK/SWCLK, 110 PA15/JTDI/SPI3_NSS/I2S3_WS/TIM2_CH1_ETR/SPI1_NSS, 111 PC10/SPI3_SCK/I2S3_CK/UART4_TX/SDIO_D2/DCMI_D8/USART3_TX, 112 PC11/UART4_RX/SPI3_MISO/SDIO_D3/DCMI_D4/USART3_RX/I2S3ext_SD, 113 PC12/UART5_TX/SDIO_CK/DCMI_D9/SPI3_MOSI/I2S3_SD/USART3_CK, 114 PD0/FSMC_D2/CAN1_RX, 115 PD1/FSMC_D3/CAN1_TX, 116 PD2/TIM3_ETR/UART5_RX/SDIO_CMD/DCMI_D11, 117 PD3/FSMC_CLK/USART2_CTS, 118 PD4/FSMC_NOE/USART2_RTS, 119 PD5/FSMC_NWE/USART2_TX, 120 VSS, 121 VDD, 122 PD6/FSMC_NWAIT/USART2_RX, 123 PD7/USART2_CK/FSMC_NE1/FSMC_NCE2, 130 VSS, 131 VDD, 133 PB3/JTDO/TRACESWO/JTDO/TRACESWO/SPI3_SCK/I2S3_CK/TIM2_CH2/SPI1_SCK, 134 PB4/NJTRST/SPI3_MISO/TIM3_CH1/SPI1_MISO/I2S3ext_SD, 135 PB5/I2C1_SMBA/CAN2_RX/OTG_HS_ULPI_D7/ETH_PPS_OUT/TIM3_CH2/SPI1_MOSI/SPI3_MOSI/DCMI_D10/I2S3_SD, 136 PB6/I2C1_SCL/TIM4_CH1/CAN2_TX/DCMI_D5/USART1_TX, 137 PB7/I2C1_SDA/FSMC_NL/DCMI_VSYNC/USART1_RX/TIM4_CH2, 138 BOOT0/VPP, 139 PB8/TIM4_CH3/SDIO_D4/TIM10_CH1/DCMI_D6/ETH_MII_TXD3/I2C1_SCL/CAN1_RX, 140 PB9/SPI2_NSS/I2S2_WS/TIM4_CH4/TIM11_CH1/SDIO_D5/DCMI_D7/I2C1_SDA/CAN1_TX, 141 PE0/TIM4_ETR/FSMC_NBL0/DCMI_D2, 142 PE1/FSMC_NBL1/DCMI_D3, 143 PDR_ON, 144 VDD
part B pins: 10 PF0/FSMC_A0/I2C2_SDA, 11 PF1/FSMC_A1/I2C2_SCL, 12 PF2/FSMC_A2/I2C2_SMBA, 13 PF3/FSMC_A3/ADC3_IN9, 14 PF4/FSMC_A4/ADC3_IN14, 15 PF5/FSMC_A5/ADC3_IN15, 18 PF6/TIM10_CH1/FSMC_NIORD/ADC3_IN4, 19 PF7/TIM11_CH1/FSMC_NREG/ADC3_IN5, 20 PF8/TIM13_CH1/FSMC_NIOWR/ADC3_IN6, 21 PF9/TIM14_CH1/FSMC_CD/ADC3_IN7, 22 PF10/FSMC_INTR/ADC3_IN8, 49 PF11/DCMI_D12, 50 PF12/FSMC_A6, 53 PF13/FSMC_A7, 54 PF14/FSMC_A8, 55 PF15/FSMC_A9, 56 PG0/FSMC_A10, 57 PG1/FSMC_A11, 87 PG2/FSMC_A12, 88 PG3/FSMC_A13, 89 PG4/FSMC_A14, 90 PG5/FSMC_A15, 91 PG6/FSMC_INT2, 92 PG7/FSMC_INT3/USART6_CK, 93 PG8/USART6_RTS/ETH_PPS_OUT, 124 PG9/USART6_RX/FSMC_NE2/FSMC_NCE3, 125 PG10/FSMC_NCE4_1/FSMC_NE3, 126 PG11/FSMC_NCE4_2/ETH_MII_TX_EN/ETH_RMII_TX_EN, 127 PG12/FSMC_NE4/USART6_RTS, 128 PG13/FSMC_A24/USART6_CTS/ETH_MII_TXD0/ETH_RMII_TXD0, 129 PG14/FSMC_A25/USART6_TX/ETH_MII_TXD1/ETH_RMII_TXD1, 132 PG15/USART6_CTS/DCMI_D13
part A text: STM32F407   Part1
part B text: STM32F407   Part2

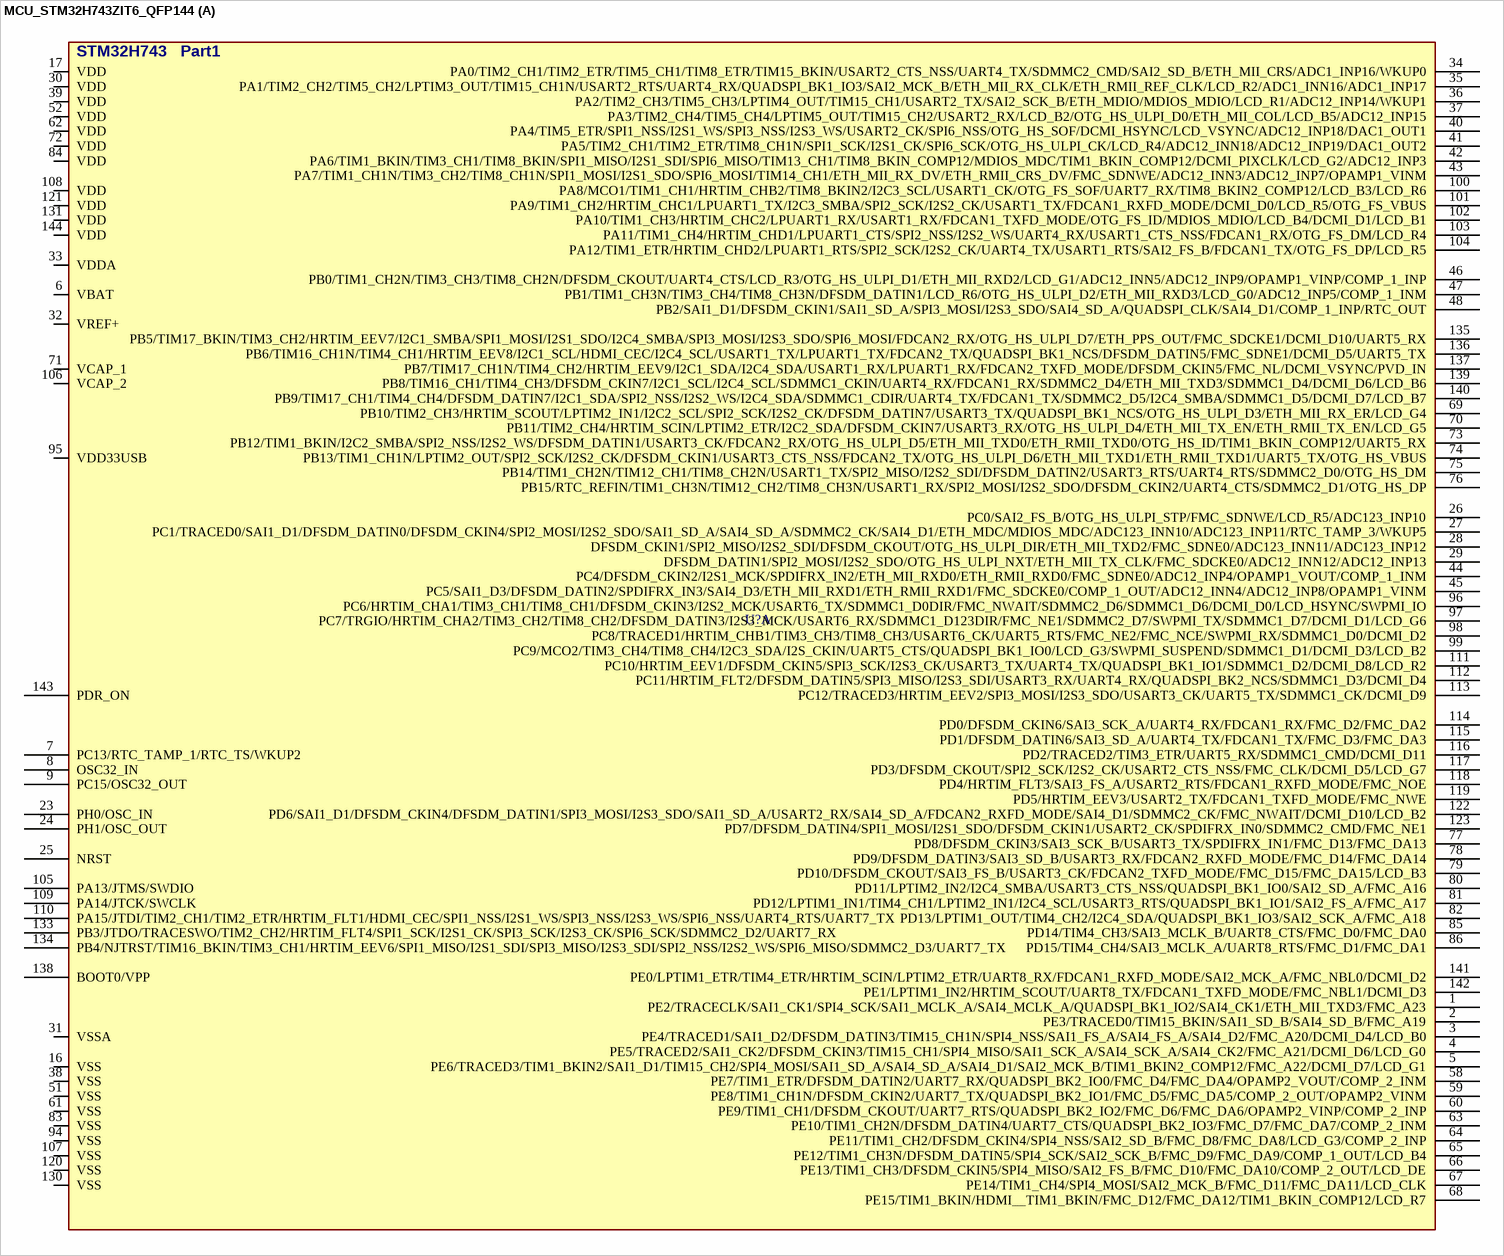
[diagram p12: symbol MCU_STM32H743ZIT6_QFP144]

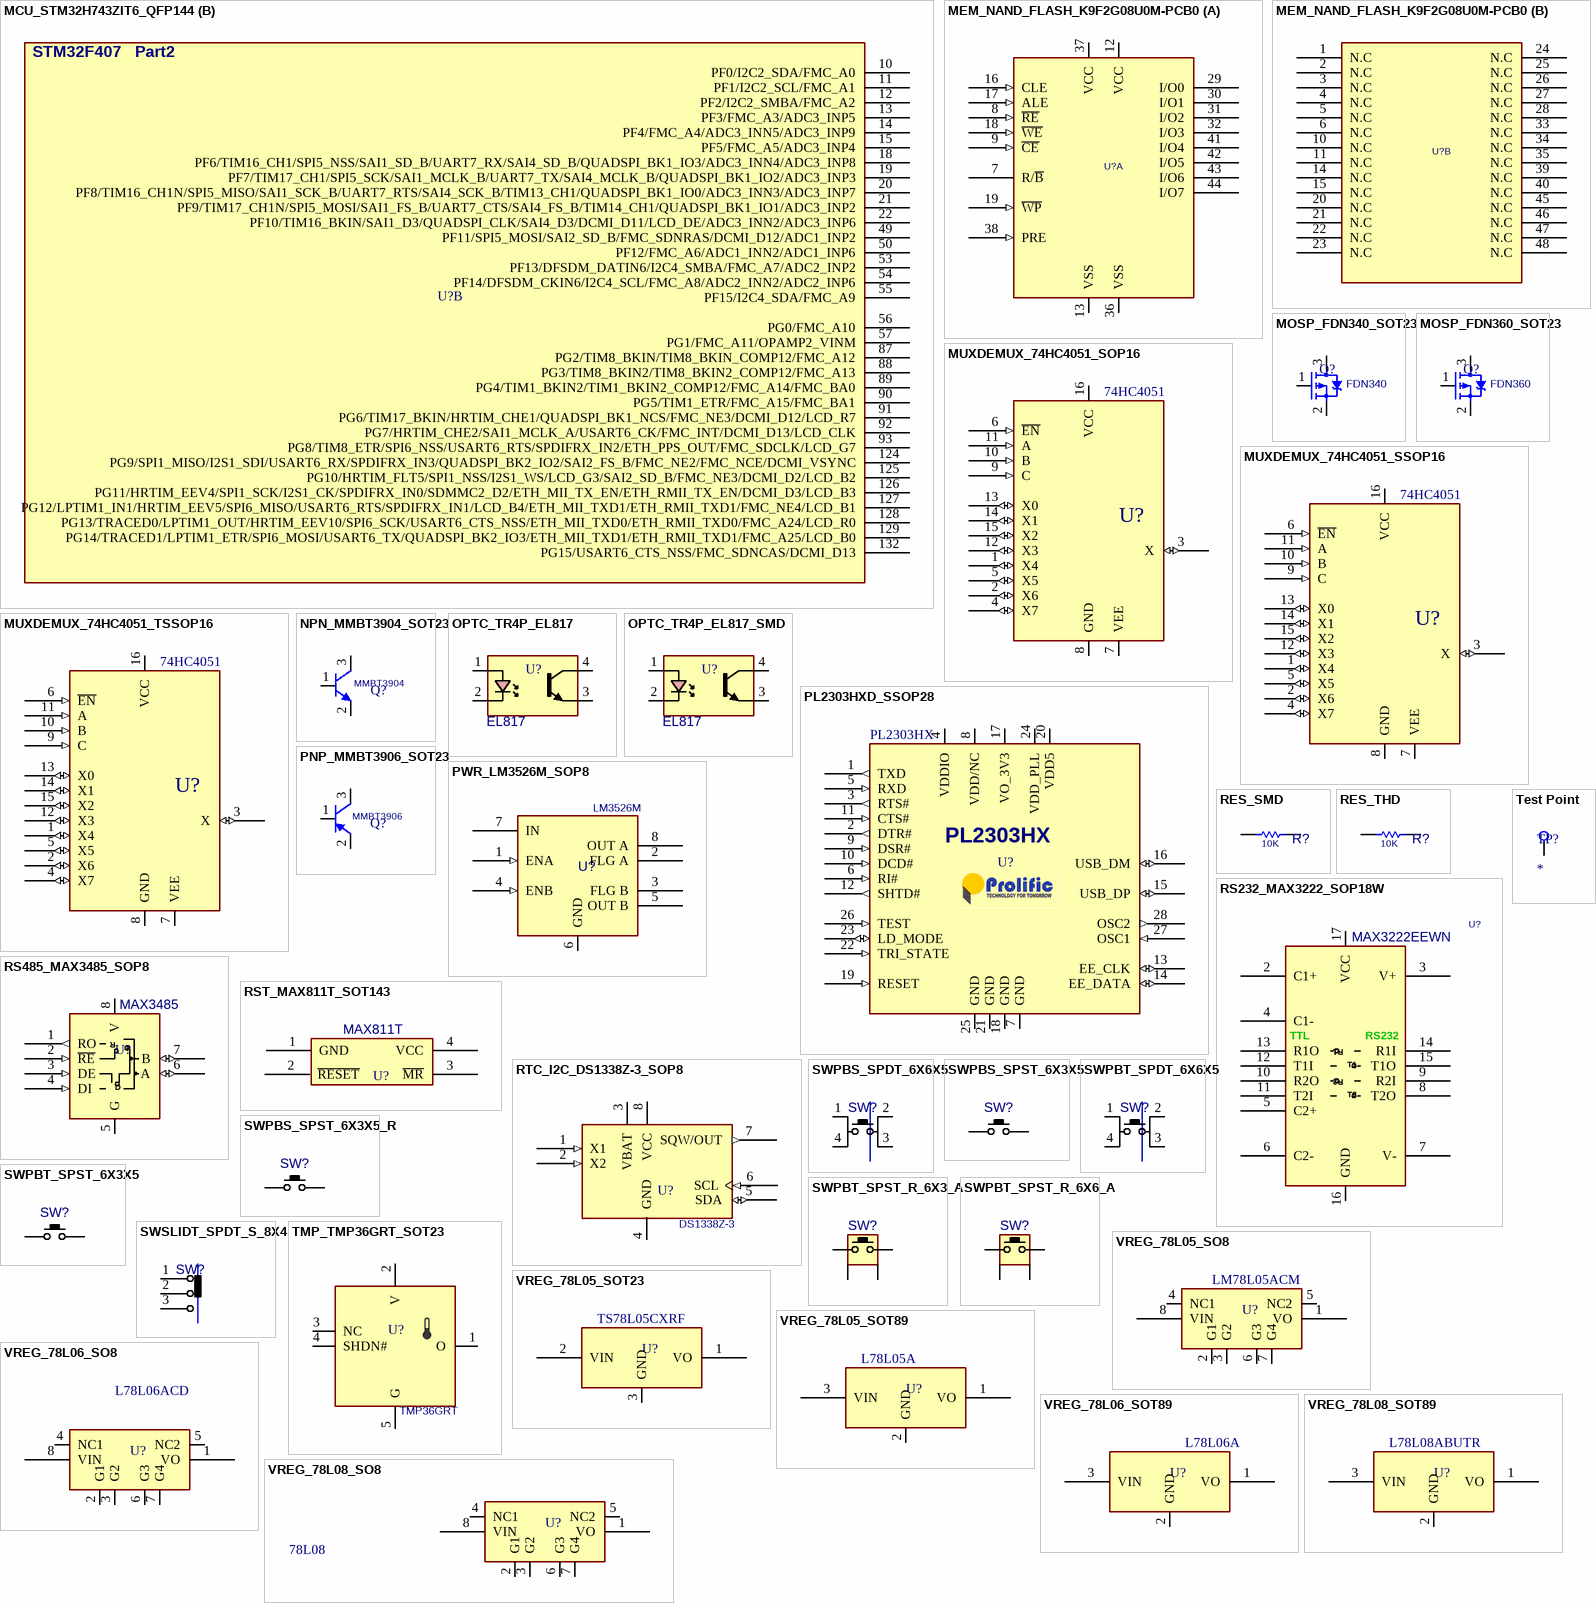
[diagram p13: symbols MCU_STM32H743ZIT6_QFP144 to VREG_78L08_SOT89]